# Altium integrated library Xilinx XC9500.IntLib: 208 symbols (part 15 of 16)
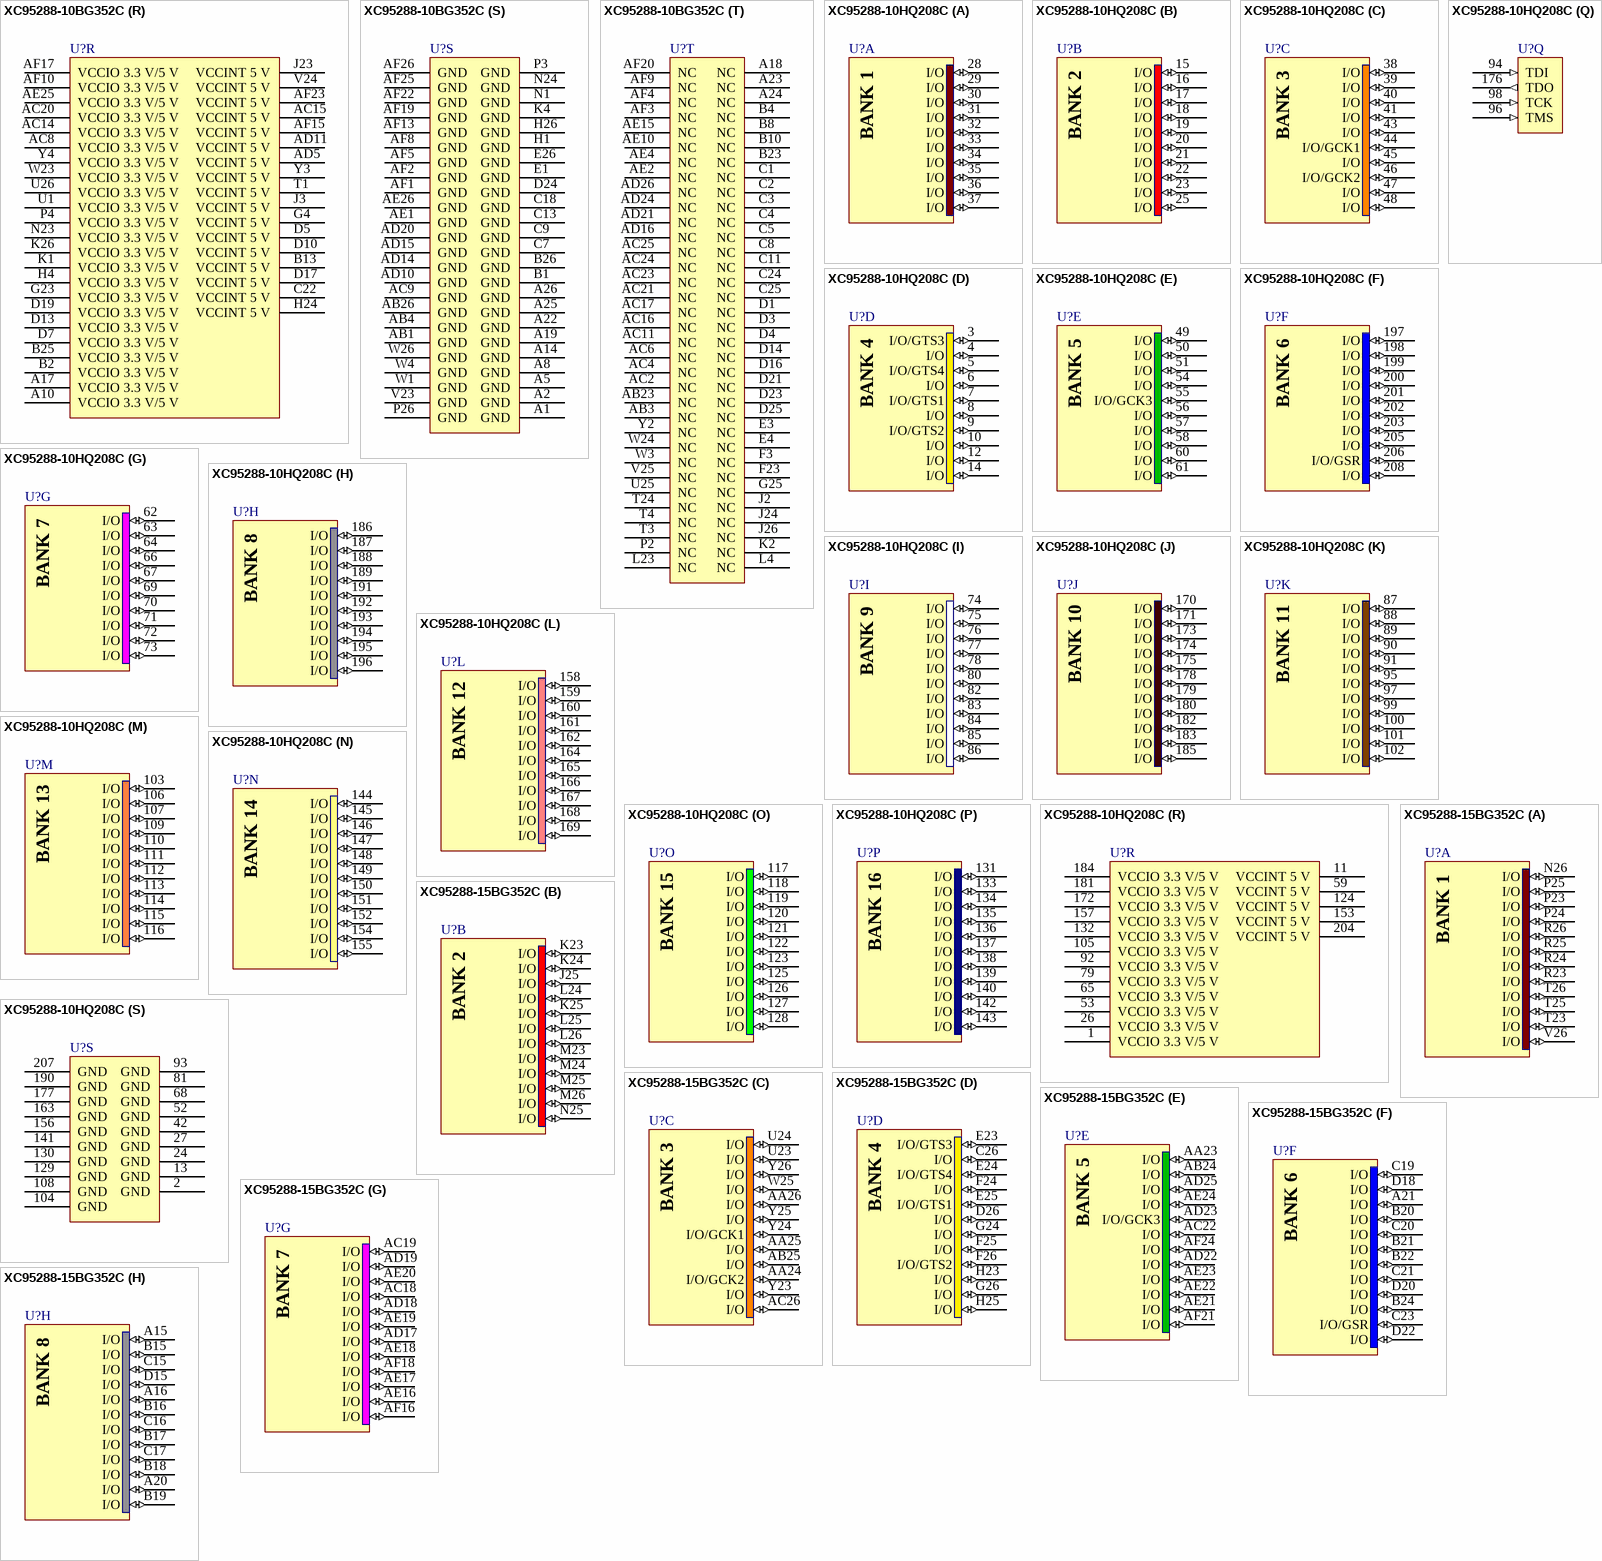
[diagram p87: symbols XC95288-10BG352C to XC95288-15BG352C]

## XC95288-10BG352C
designator U?
XC9500 5V, 288 Macrocell CPLD, 192 User I/Os, 352-Ball BGA, Commercial Grade; Published: 17-Sep-2003; LatestRevisionDate: 18-Nov-2009; LatestRevisionNote: Updated to family datasheet version 5.5 Jun-2007.; DatasheetVersion: ver4.3, Apr-2006; PackageVersion: ver1.1, Apr-2001; PackageReference: BG352; Publisher: Altium Limited; PackageDescription: 352-Ball Metal Ball Grid Array (BG352); Supplier 1: Digi-Key; Supplier Part Number 1: XC95288-10BG352C-ND; Code_JEDEC: MO-192-BAR-2; ComponentLink1Description: XC95288 Datasheet; ComponentLink1URL: http://www.xilinx.com/support/documentation/data_sheets/ds069.pdf; ComponentLink2Description: BG352 Package Drawing; ComponentLink2URL: http://www.xilinx.com/support/documentation/package_specs/bg352.pdf; ComponentLink3Description: XC9500 Documents; ComponentLink3URL: http://www.xilinx.com/support/documentation/xc9500.htm; ComponentLink4Description: Xilinx.com Home; ComponentLink4URL: http://www.xilinx.com
footprint BG352 (BGA, 352-Leads, Body 35x35mm, Pitch 1.27mm)
signal-integrity model XC95288_BGA352 (XC9500)
part A pins: N26 I/O (io), P23 I/O (io), P24 I/O (io), P25 I/O (io), R23 I/O (io), R24 I/O (io), R25 I/O (io), R26 I/O (io), T23 I/O (io), T25 I/O (io), T26 I/O (io), V26 I/O (io)
part B pins: J25 I/O (io), K23 I/O (io), K24 I/O (io), K25 I/O (io), L24 I/O (io), L25 I/O (io), L26 I/O (io), M23 I/O (io), M24 I/O (io), M25 I/O (io), M26 I/O (io), N25 I/O (io)
part C pins: AA24 I/O/GCK2 (io), AA25 I/O (io), AA26 I/O (io), AB25 I/O (io), AC26 I/O (io), U23 I/O (io), U24 I/O (io), W25 I/O (io), Y23 I/O (io), Y24 I/O/GCK1 (io), Y25 I/O (io), Y26 I/O (io)
part D pins: C26 I/O (io), D26 I/O (io), E23 I/O/GTS3 (io), E24 I/O/GTS4 (io), E25 I/O/GTS1 (io), F24 I/O (io), F25 I/O (io), F26 I/O/GTS2 (io), G24 I/O (io), G26 I/O (io), H23 I/O (io), H25 I/O (io)
part E pins: AA23 I/O (io), AB24 I/O (io), AC22 I/O (io), AD22 I/O (io), AD23 I/O/GCK3 (io), AD25 I/O (io), AE21 I/O (io), AE22 I/O (io), AE23 I/O (io), AE24 I/O (io), AF21 I/O (io), AF24 I/O (io)
part F pins: A21 I/O (io), B20 I/O (io), B21 I/O (io), B22 I/O (io), B24 I/O (io), C19 I/O (io), C20 I/O (io), C21 I/O (io), C23 I/O/GSR (io), D18 I/O (io), D20 I/O (io), D22 I/O (io)
part G pins: AC18 I/O (io), AC19 I/O (io), AD17 I/O (io), AD18 I/O (io), AD19 I/O (io), AE16 I/O (io), AE17 I/O (io), AE18 I/O (io), AE19 I/O (io), AE20 I/O (io), AF16 I/O (io), AF18 I/O (io)
part H pins: A15 I/O (io), A16 I/O (io), A20 I/O (io), B15 I/O (io), B16 I/O (io), B17 I/O (io), B18 I/O (io), B19 I/O (io), C15 I/O (io), C16 I/O (io), C17 I/O (io), D15 I/O (io)
part I pins: AC12 I/O (io), AC13 I/O (io), AD12 I/O (io), AD13 I/O (io), AE9 I/O (io), AE11 I/O (io), AE12 I/O (io), AE13 I/O (io), AE14 I/O (io), AF11 I/O (io), AF12 I/O (io), AF14 I/O (io)
part J pins: A9 I/O (io), A11 I/O (io), A12 I/O (io), A13 I/O (io), B9 I/O (io), B11 I/O (io), B12 I/O (io), B14 I/O (io), C10 I/O (io), C12 I/O (io), C14 I/O (io), D11 I/O (io)
part K pins: AC5 I/O (io), AC7 I/O (io), AC10 I/O (io), AD4 I/O (io), AD7 I/O (io), AD8 I/O (io), AD9 I/O (io), AE3 I/O (io), AE5 I/O (io), AE7 I/O (io), AE8 I/O (io), AF7 I/O (io)
part L pins: A3 I/O (io), A4 I/O (io), A6 I/O (io), A7 I/O (io), B3 I/O (io), B5 I/O (io), B6 I/O (io), B7 I/O (io), C6 I/O (io), D6 I/O (io), D8 I/O (io), D9 I/O (io)
part M pins: AA1 I/O (io), AA2 I/O (io), AA3 I/O (io), AA4 I/O (io), AB2 I/O (io), AC1 I/O (io), AC3 I/O (io), AD1 I/O (io), AD2 I/O (io), AD3 I/O (io), V4 I/O (io), Y1 I/O (io)
part N pins: D2 I/O (io), E2 I/O (io), F1 I/O (io), F2 I/O (io), F4 I/O (io), G1 I/O (io), G2 I/O (io), G3 I/O (io), H2 I/O (io), H3 I/O (io), J4 I/O (io), K3 I/O (io)
part O pins: R1 I/O (io), R2 I/O (io), R3 I/O (io), R4 I/O (io), T2 I/O (io), U2 I/O (io), U3 I/O (io), U4 I/O (io), V1 I/O (io), V2 I/O (io), V3 I/O (io), W2 I/O (io)
part P pins: J1 I/O (io), L1 I/O (io), L2 I/O (io), L3 I/O (io), M1 I/O (io), M2 I/O (io), M3 I/O (io), M4 I/O (io), N2 I/O (io), N3 I/O (io), N4 I/O (io), P1 I/O (io)
part Q pins: AD6 TCK (in), AE6 TMS (in), AF6 TDI (in), D12 TDO (out)
part R pins: A10 VCCIO 3.3 V/5 V (power), A17 VCCIO 3.3 V/5 V (power), AC8 VCCIO 3.3 V/5 V (power), AC14 VCCIO 3.3 V/5 V (power), AC15 VCCINT 5 V (power), AC20 VCCIO 3.3 V/5 V (power), AD5 VCCINT 5 V (power), AD11 VCCINT 5 V (power), AE25 VCCIO 3.3 V/5 V (power), AF10 VCCIO 3.3 V/5 V (power), AF15 VCCINT 5 V (power), AF17 VCCIO 3.3 V/5 V (power), AF23 VCCINT 5 V (power), B2 VCCIO 3.3 V/5 V (power), B13 VCCINT 5 V (power), B25 VCCIO 3.3 V/5 V (power), C22 VCCINT 5 V (power), D5 VCCINT 5 V (power), D7 VCCIO 3.3 V/5 V (power), D10 VCCINT 5 V (power), D13 VCCIO 3.3 V/5 V (power), D17 VCCINT 5 V (power), D19 VCCIO 3.3 V/5 V (power), G4 VCCINT 5 V (power), G23 VCCIO 3.3 V/5 V (power), H4 VCCIO 3.3 V/5 V (power), H24 VCCINT 5 V (power), J3 VCCINT 5 V (power), J23 VCCINT 5 V (power), K1 VCCIO 3.3 V/5 V (power), K26 VCCIO 3.3 V/5 V (power), N23 VCCIO 3.3 V/5 V (power), P4 VCCIO 3.3 V/5 V (power), T1 VCCINT 5 V (power), U1 VCCIO 3.3 V/5 V (power), U26 VCCIO 3.3 V/5 V (power), V24 VCCINT 5 V (power), W23 VCCIO 3.3 V/5 V (power), Y3 VCCINT 5 V (power), Y4 VCCIO 3.3 V/5 V (power)
part S pins: A1 GND (power), A2 GND (power), A5 GND (power), A8 GND (power), A14 GND (power), A19 GND (power), A22 GND (power), A25 GND (power), A26 GND (power), AB1 GND (power), AB4 GND (power), AB26 GND (power), AC9 GND (power), AD10 GND (power), AD14 GND (power), AD15 GND (power), AD20 GND (power), AE1 GND (power), AE26 GND (power), AF1 GND (power), AF2 GND (power), AF5 GND (power), AF8 GND (power), AF13 GND (power), AF19 GND (power), AF22 GND (power), AF25 GND (power), AF26 GND (power), B1 GND (power), B26 GND (power), C7 GND (power), C9 GND (power), C13 GND (power), C18 GND (power), D24 GND (power), E1 GND (power), E26 GND (power), H1 GND (power), H26 GND (power), K4 GND (power), N1 GND (power), N24 GND (power), P3 GND (power), P26 GND (power), V23 GND (power), W1 GND (power), W4 GND (power), W26 GND (power)
part T pins: A18 NC, A23 NC, A24 NC, AB3 NC, AB23 NC, AC2 NC, AC4 NC, AC6 NC, AC11 NC, AC16 NC, AC17 NC, AC21 NC, AC23 NC, AC24 NC, AC25 NC, AD16 NC, AD21 NC, AD24 NC, AD26 NC, AE2 NC, AE4 NC, AE10 NC, AE15 NC, AF3 NC, AF4 NC, AF9 NC, AF20 NC, B4 NC, B8 NC, B10 NC, B23 NC, C1 NC, C2 NC, C3 NC, C4 NC, C5 NC, C8 NC, C11 NC, C24 NC, C25 NC, D1 NC, D3 NC, D4 NC, D14 NC, D16 NC, D21 NC, D23 NC, D25 NC, E3 NC, E4 NC, F3 NC, F23 NC, G25 NC, J2 NC, J24 NC, J26 NC, K2 NC, L4 NC, L23 NC, P2 NC, T3 NC, T4 NC, T24 NC, U25 NC, V25 NC, W3 NC, W24 NC, Y2 NC
part A text: BANK 1
part B text: BANK 2
part C text: BANK 3
part D text: BANK 4
part E text: BANK 5
part F text: BANK 6
part G text: BANK 7
part H text: BANK 8
part I text: BANK 9
part J text: BANK 10
part K text: BANK 11
part L text: BANK 12
part M text: BANK 13
part N text: BANK 14
part O text: BANK 15
part P text: BANK 16

## XC95288-10HQ208C
designator U?
XC9500 5V, 288 Macrocell CPLD, 168 User I/Os, 208-Pin HQFP, Commercial Grade; Published: 17-Sep-2003; LatestRevisionDate: 18-Nov-2009; LatestRevisionNote: Updated to family datasheet version 5.5 Jun-2007.; DatasheetVersion: ver4.3, Apr-2006; PackageVersion: ver1.2, Jun-2004; PackageReference: HQ208; Publisher: Altium Limited; PackageDescription: 208-Pin Heat Sink Quad Flat Pack (HQ208); Supplier 1: Digi-Key; Supplier Part Number 1: XC95288-10HQ208C-ND; Code_JEDEC: MS-029-FA-1; ComponentLink1Description: XC95288 Datasheet; ComponentLink1URL: http://www.xilinx.com/support/documentation/data_sheets/ds069.pdf; ComponentLink2Description: Discontinuation Notice; ComponentLink2URL: http://www.xilinx.com/support/documentation/customer_notices/xcn09001.pdf; ComponentLink3Description: HQ208 Package Drawing; ComponentLink3URL: http://www.xilinx.com/support/documentation/package_specs/hq208.pdf; ComponentLink4Description: XC9500 Documents; ComponentLink4URL: http://www.xilinx.com/support/documentation/xc9500.htm; ComponentLink5Description: Xilinx.com Home; ComponentLink5URL: http://www.xilinx.com
footprint HQ208_N (Shrink QFP, 208-Leads, Body 28x28mm, Pitch 0.5mm, IPC Medium Density)
footprint HQ208_L (Shrink QFP, 208-Leads, Body 28x28mm, Pitch 0.5mm, IPC High Density)
footprint HQ208_M (Shrink QFP, 208-Leads, Body 28x28mm, Pitch 0.5mm, IPC Low Density)
signal-integrity model XC95288_HQ208 (XC9500)
part A pins: 28 I/O (io), 29 I/O (io), 30 I/O (io), 31 I/O (io), 32 I/O (io), 33 I/O (io), 34 I/O (io), 35 I/O (io), 36 I/O (io), 37 I/O (io)
part B pins: 15 I/O (io), 16 I/O (io), 17 I/O (io), 18 I/O (io), 19 I/O (io), 20 I/O (io), 21 I/O (io), 22 I/O (io), 23 I/O (io), 25 I/O (io)
part C pins: 38 I/O (io), 39 I/O (io), 40 I/O (io), 41 I/O (io), 43 I/O (io), 44 I/O/GCK1 (io), 45 I/O (io), 46 I/O/GCK2 (io), 47 I/O (io), 48 I/O (io)
part D pins: 3 I/O/GTS3 (io), 4 I/O (io), 5 I/O/GTS4 (io), 6 I/O (io), 7 I/O/GTS1 (io), 8 I/O (io), 9 I/O/GTS2 (io), 10 I/O (io), 12 I/O (io), 14 I/O (io)
part E pins: 49 I/O (io), 50 I/O (io), 51 I/O (io), 54 I/O (io), 55 I/O/GCK3 (io), 56 I/O (io), 57 I/O (io), 58 I/O (io), 60 I/O (io), 61 I/O (io)
part F pins: 197 I/O (io), 198 I/O (io), 199 I/O (io), 200 I/O (io), 201 I/O (io), 202 I/O (io), 203 I/O (io), 205 I/O (io), 206 I/O/GSR (io), 208 I/O (io)
part G pins: 62 I/O (io), 63 I/O (io), 64 I/O (io), 66 I/O (io), 67 I/O (io), 69 I/O (io), 70 I/O (io), 71 I/O (io), 72 I/O (io), 73 I/O (io)
part H pins: 186 I/O (io), 187 I/O (io), 188 I/O (io), 189 I/O (io), 191 I/O (io), 192 I/O (io), 193 I/O (io), 194 I/O (io), 195 I/O (io), 196 I/O (io)
part I pins: 74 I/O (io), 75 I/O (io), 76 I/O (io), 77 I/O (io), 78 I/O (io), 80 I/O (io), 82 I/O (io), 83 I/O (io), 84 I/O (io), 85 I/O (io), 86 I/O (io)
part J pins: 170 I/O (io), 171 I/O (io), 173 I/O (io), 174 I/O (io), 175 I/O (io), 178 I/O (io), 179 I/O (io), 180 I/O (io), 182 I/O (io), 183 I/O (io), 185 I/O (io)
part K pins: 87 I/O (io), 88 I/O (io), 89 I/O (io), 90 I/O (io), 91 I/O (io), 95 I/O (io), 97 I/O (io), 99 I/O (io), 100 I/O (io), 101 I/O (io), 102 I/O (io)
part L pins: 158 I/O (io), 159 I/O (io), 160 I/O (io), 161 I/O (io), 162 I/O (io), 164 I/O (io), 165 I/O (io), 166 I/O (io), 167 I/O (io), 168 I/O (io), 169 I/O (io)
part M pins: 103 I/O (io), 106 I/O (io), 107 I/O (io), 109 I/O (io), 110 I/O (io), 111 I/O (io), 112 I/O (io), 113 I/O (io), 114 I/O (io), 115 I/O (io), 116 I/O (io)
part N pins: 144 I/O (io), 145 I/O (io), 146 I/O (io), 147 I/O (io), 148 I/O (io), 149 I/O (io), 150 I/O (io), 151 I/O (io), 152 I/O (io), 154 I/O (io), 155 I/O (io)
part O pins: 117 I/O (io), 118 I/O (io), 119 I/O (io), 120 I/O (io), 121 I/O (io), 122 I/O (io), 123 I/O (io), 125 I/O (io), 126 I/O (io), 127 I/O (io), 128 I/O (io)
part P pins: 131 I/O (io), 133 I/O (io), 134 I/O (io), 135 I/O (io), 136 I/O (io), 137 I/O (io), 138 I/O (io), 139 I/O (io), 140 I/O (io), 142 I/O (io), 143 I/O (io)
part Q pins: 94 TDI (in), 96 TMS (in), 98 TCK (in), 176 TDO (out)
part R pins: 1 VCCIO 3.3 V/5 V (power), 11 VCCINT 5 V (power), 26 VCCIO 3.3 V/5 V (power), 53 VCCIO 3.3 V/5 V (power), 59 VCCINT 5 V (power), 65 VCCIO 3.3 V/5 V (power), 79 VCCIO 3.3 V/5 V (power), 92 VCCIO 3.3 V/5 V (power), 105 VCCIO 3.3 V/5 V (power), 124 VCCINT 5 V (power), 132 VCCIO 3.3 V/5 V (power), 153 VCCINT 5 V (power), 157 VCCIO 3.3 V/5 V (power), 172 VCCIO 3.3 V/5 V (power), 181 VCCIO 3.3 V/5 V (power), 184 VCCIO 3.3 V/5 V (power), 204 VCCINT 5 V (power)
part S pins: 2 GND (power), 13 GND (power), 24 GND (power), 27 GND (power), 42 GND (power), 52 GND (power), 68 GND (power), 81 GND (power), 93 GND (power), 104 GND (power), 108 GND (power), 129 GND (power), 130 GND (power), 141 GND (power), 156 GND (power), 163 GND (power), 177 GND (power), 190 GND (power), 207 GND (power)
part A text: BANK 1
part B text: BANK 2
part C text: BANK 3
part D text: BANK 4
part E text: BANK 5
part F text: BANK 6
part G text: BANK 7
part H text: BANK 8
part I text: BANK 9
part J text: BANK 10
part K text: BANK 11
part L text: BANK 12
part M text: BANK 13
part N text: BANK 14
part O text: BANK 15
part P text: BANK 16

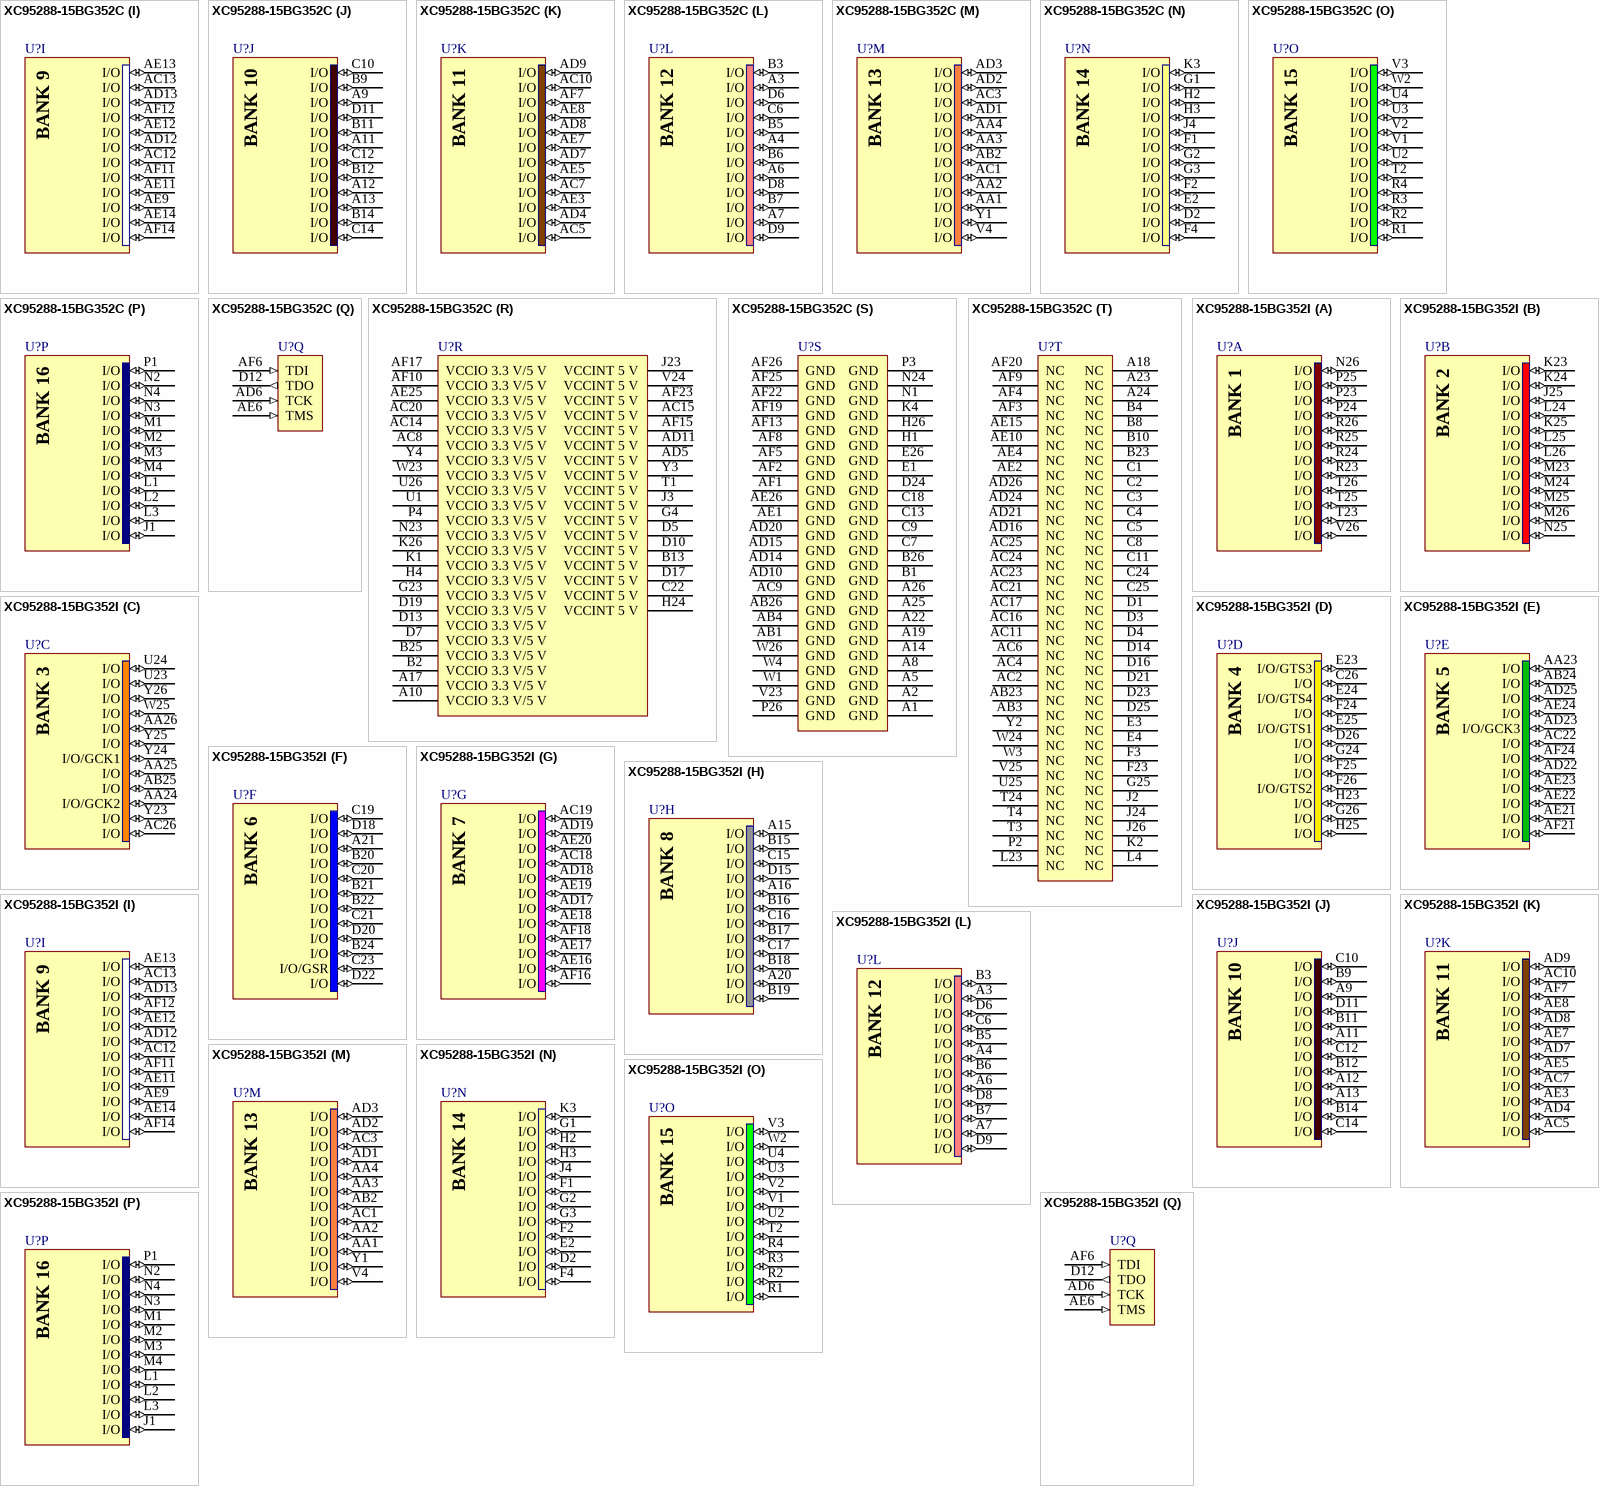
[diagram p69: symbols XC95288-15BG352C to XC95288-15BG352I]

## XC95288-15BG352C
designator U?
XC9500 5V, 288 Macrocell CPLD, 192 User I/Os, 352-Ball BGA, Commercial Grade; Published: 17-Sep-2003; LatestRevisionDate: 18-Nov-2009; LatestRevisionNote: Updated to family datasheet version 5.5 Jun-2007.; DatasheetVersion: ver4.3, Apr-2006; PackageVersion: ver1.1, Apr-2001; PackageReference: BG352; Publisher: Altium Limited; PackageDescription: 352-Ball Metal Ball Grid Array (BG352); Supplier 1: Digi-Key; Supplier Part Number 1: XC95288-15BG352C-ND; Code_JEDEC: MO-192-BAR-2; ComponentLink1Description: XC95288 Datasheet; ComponentLink1URL: http://www.xilinx.com/support/documentation/data_sheets/ds069.pdf; ComponentLink2Description: BG352 Package Drawing; ComponentLink2URL: http://www.xilinx.com/support/documentation/package_specs/bg352.pdf; ComponentLink3Description: XC9500 Documents; ComponentLink3URL: http://www.xilinx.com/support/documentation/xc9500.htm; ComponentLink4Description: Xilinx.com Home; ComponentLink4URL: http://www.xilinx.com
footprint BG352 (BGA, 352-Leads, Body 35x35mm, Pitch 1.27mm)
signal-integrity model XC95288_BGA352 (XC9500)
part A pins: N26 I/O (io), P23 I/O (io), P24 I/O (io), P25 I/O (io), R23 I/O (io), R24 I/O (io), R25 I/O (io), R26 I/O (io), T23 I/O (io), T25 I/O (io), T26 I/O (io), V26 I/O (io)
part B pins: J25 I/O (io), K23 I/O (io), K24 I/O (io), K25 I/O (io), L24 I/O (io), L25 I/O (io), L26 I/O (io), M23 I/O (io), M24 I/O (io), M25 I/O (io), M26 I/O (io), N25 I/O (io)
part C pins: AA24 I/O/GCK2 (io), AA25 I/O (io), AA26 I/O (io), AB25 I/O (io), AC26 I/O (io), U23 I/O (io), U24 I/O (io), W25 I/O (io), Y23 I/O (io), Y24 I/O/GCK1 (io), Y25 I/O (io), Y26 I/O (io)
part D pins: C26 I/O (io), D26 I/O (io), E23 I/O/GTS3 (io), E24 I/O/GTS4 (io), E25 I/O/GTS1 (io), F24 I/O (io), F25 I/O (io), F26 I/O/GTS2 (io), G24 I/O (io), G26 I/O (io), H23 I/O (io), H25 I/O (io)
part E pins: AA23 I/O (io), AB24 I/O (io), AC22 I/O (io), AD22 I/O (io), AD23 I/O/GCK3 (io), AD25 I/O (io), AE21 I/O (io), AE22 I/O (io), AE23 I/O (io), AE24 I/O (io), AF21 I/O (io), AF24 I/O (io)
part F pins: A21 I/O (io), B20 I/O (io), B21 I/O (io), B22 I/O (io), B24 I/O (io), C19 I/O (io), C20 I/O (io), C21 I/O (io), C23 I/O/GSR (io), D18 I/O (io), D20 I/O (io), D22 I/O (io)
part G pins: AC18 I/O (io), AC19 I/O (io), AD17 I/O (io), AD18 I/O (io), AD19 I/O (io), AE16 I/O (io), AE17 I/O (io), AE18 I/O (io), AE19 I/O (io), AE20 I/O (io), AF16 I/O (io), AF18 I/O (io)
part H pins: A15 I/O (io), A16 I/O (io), A20 I/O (io), B15 I/O (io), B16 I/O (io), B17 I/O (io), B18 I/O (io), B19 I/O (io), C15 I/O (io), C16 I/O (io), C17 I/O (io), D15 I/O (io)
part I pins: AC12 I/O (io), AC13 I/O (io), AD12 I/O (io), AD13 I/O (io), AE9 I/O (io), AE11 I/O (io), AE12 I/O (io), AE13 I/O (io), AE14 I/O (io), AF11 I/O (io), AF12 I/O (io), AF14 I/O (io)
part J pins: A9 I/O (io), A11 I/O (io), A12 I/O (io), A13 I/O (io), B9 I/O (io), B11 I/O (io), B12 I/O (io), B14 I/O (io), C10 I/O (io), C12 I/O (io), C14 I/O (io), D11 I/O (io)
part K pins: AC5 I/O (io), AC7 I/O (io), AC10 I/O (io), AD4 I/O (io), AD7 I/O (io), AD8 I/O (io), AD9 I/O (io), AE3 I/O (io), AE5 I/O (io), AE7 I/O (io), AE8 I/O (io), AF7 I/O (io)
part L pins: A3 I/O (io), A4 I/O (io), A6 I/O (io), A7 I/O (io), B3 I/O (io), B5 I/O (io), B6 I/O (io), B7 I/O (io), C6 I/O (io), D6 I/O (io), D8 I/O (io), D9 I/O (io)
part M pins: AA1 I/O (io), AA2 I/O (io), AA3 I/O (io), AA4 I/O (io), AB2 I/O (io), AC1 I/O (io), AC3 I/O (io), AD1 I/O (io), AD2 I/O (io), AD3 I/O (io), V4 I/O (io), Y1 I/O (io)
part N pins: D2 I/O (io), E2 I/O (io), F1 I/O (io), F2 I/O (io), F4 I/O (io), G1 I/O (io), G2 I/O (io), G3 I/O (io), H2 I/O (io), H3 I/O (io), J4 I/O (io), K3 I/O (io)
part O pins: R1 I/O (io), R2 I/O (io), R3 I/O (io), R4 I/O (io), T2 I/O (io), U2 I/O (io), U3 I/O (io), U4 I/O (io), V1 I/O (io), V2 I/O (io), V3 I/O (io), W2 I/O (io)
part P pins: J1 I/O (io), L1 I/O (io), L2 I/O (io), L3 I/O (io), M1 I/O (io), M2 I/O (io), M3 I/O (io), M4 I/O (io), N2 I/O (io), N3 I/O (io), N4 I/O (io), P1 I/O (io)
part Q pins: AD6 TCK (in), AE6 TMS (in), AF6 TDI (in), D12 TDO (out)
part R pins: A10 VCCIO 3.3 V/5 V (power), A17 VCCIO 3.3 V/5 V (power), AC8 VCCIO 3.3 V/5 V (power), AC14 VCCIO 3.3 V/5 V (power), AC15 VCCINT 5 V (power), AC20 VCCIO 3.3 V/5 V (power), AD5 VCCINT 5 V (power), AD11 VCCINT 5 V (power), AE25 VCCIO 3.3 V/5 V (power), AF10 VCCIO 3.3 V/5 V (power), AF15 VCCINT 5 V (power), AF17 VCCIO 3.3 V/5 V (power), AF23 VCCINT 5 V (power), B2 VCCIO 3.3 V/5 V (power), B13 VCCINT 5 V (power), B25 VCCIO 3.3 V/5 V (power), C22 VCCINT 5 V (power), D5 VCCINT 5 V (power), D7 VCCIO 3.3 V/5 V (power), D10 VCCINT 5 V (power), D13 VCCIO 3.3 V/5 V (power), D17 VCCINT 5 V (power), D19 VCCIO 3.3 V/5 V (power), G4 VCCINT 5 V (power), G23 VCCIO 3.3 V/5 V (power), H4 VCCIO 3.3 V/5 V (power), H24 VCCINT 5 V (power), J3 VCCINT 5 V (power), J23 VCCINT 5 V (power), K1 VCCIO 3.3 V/5 V (power), K26 VCCIO 3.3 V/5 V (power), N23 VCCIO 3.3 V/5 V (power), P4 VCCIO 3.3 V/5 V (power), T1 VCCINT 5 V (power), U1 VCCIO 3.3 V/5 V (power), U26 VCCIO 3.3 V/5 V (power), V24 VCCINT 5 V (power), W23 VCCIO 3.3 V/5 V (power), Y3 VCCINT 5 V (power), Y4 VCCIO 3.3 V/5 V (power)
part S pins: A1 GND (power), A2 GND (power), A5 GND (power), A8 GND (power), A14 GND (power), A19 GND (power), A22 GND (power), A25 GND (power), A26 GND (power), AB1 GND (power), AB4 GND (power), AB26 GND (power), AC9 GND (power), AD10 GND (power), AD14 GND (power), AD15 GND (power), AD20 GND (power), AE1 GND (power), AE26 GND (power), AF1 GND (power), AF2 GND (power), AF5 GND (power), AF8 GND (power), AF13 GND (power), AF19 GND (power), AF22 GND (power), AF25 GND (power), AF26 GND (power), B1 GND (power), B26 GND (power), C7 GND (power), C9 GND (power), C13 GND (power), C18 GND (power), D24 GND (power), E1 GND (power), E26 GND (power), H1 GND (power), H26 GND (power), K4 GND (power), N1 GND (power), N24 GND (power), P3 GND (power), P26 GND (power), V23 GND (power), W1 GND (power), W4 GND (power), W26 GND (power)
part T pins: A18 NC, A23 NC, A24 NC, AB3 NC, AB23 NC, AC2 NC, AC4 NC, AC6 NC, AC11 NC, AC16 NC, AC17 NC, AC21 NC, AC23 NC, AC24 NC, AC25 NC, AD16 NC, AD21 NC, AD24 NC, AD26 NC, AE2 NC, AE4 NC, AE10 NC, AE15 NC, AF3 NC, AF4 NC, AF9 NC, AF20 NC, B4 NC, B8 NC, B10 NC, B23 NC, C1 NC, C2 NC, C3 NC, C4 NC, C5 NC, C8 NC, C11 NC, C24 NC, C25 NC, D1 NC, D3 NC, D4 NC, D14 NC, D16 NC, D21 NC, D23 NC, D25 NC, E3 NC, E4 NC, F3 NC, F23 NC, G25 NC, J2 NC, J24 NC, J26 NC, K2 NC, L4 NC, L23 NC, P2 NC, T3 NC, T4 NC, T24 NC, U25 NC, V25 NC, W3 NC, W24 NC, Y2 NC
part A text: BANK 1
part B text: BANK 2
part C text: BANK 3
part D text: BANK 4
part E text: BANK 5
part F text: BANK 6
part G text: BANK 7
part H text: BANK 8
part I text: BANK 9
part J text: BANK 10
part K text: BANK 11
part L text: BANK 12
part M text: BANK 13
part N text: BANK 14
part O text: BANK 15
part P text: BANK 16

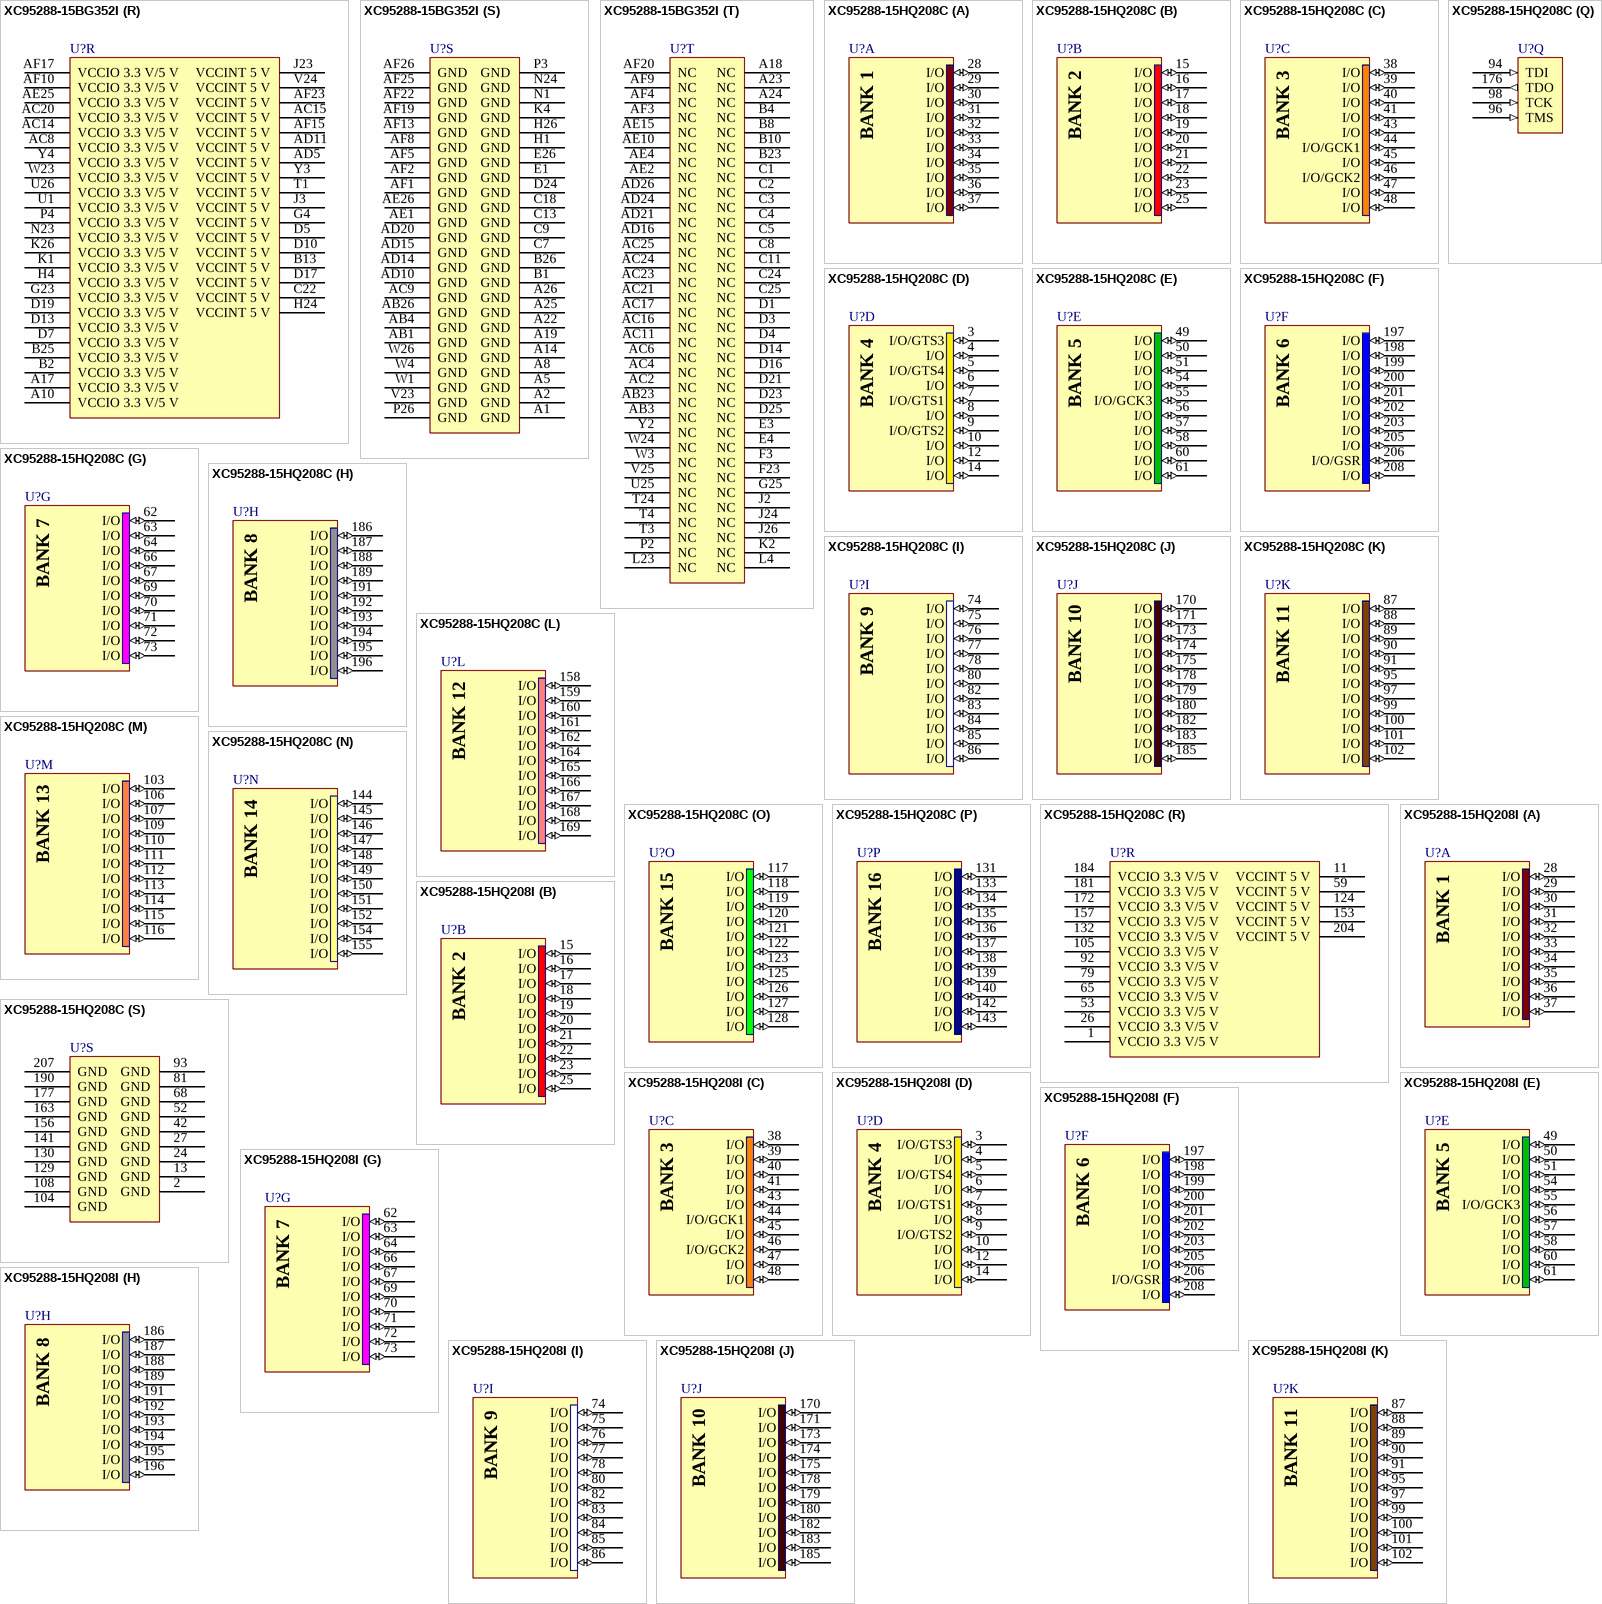
[diagram p70: symbols XC95288-15BG352I to XC95288-15HQ208I]

## XC95288-15BG352I
designator U?
XC9500 5V, 288 Macrocell CPLD, 192 User I/Os, 352-Ball BGA, Industrial Grade; Published: 17-Sep-2003; LatestRevisionDate: 18-Nov-2009; LatestRevisionNote: Updated to family datasheet version 5.5 Jun-2007.; DatasheetVersion: ver4.3, Apr-2006; PackageVersion: ver1.1, Apr-2001; PackageReference: BG352; Publisher: Altium Limited; PackageDescription: 352-Ball Metal Ball Grid Array (BG352); Supplier 1: Digi-Key; Supplier Part Number 1: XC95288-15BG352I-ND; Code_JEDEC: MO-192-BAR-2; ComponentLink1Description: XC95288 Datasheet; ComponentLink1URL: http://www.xilinx.com/support/documentation/data_sheets/ds069.pdf; ComponentLink2Description: BG352 Package Drawing; ComponentLink2URL: http://www.xilinx.com/support/documentation/package_specs/bg352.pdf; ComponentLink3Description: XC9500 Documents; ComponentLink3URL: http://www.xilinx.com/support/documentation/xc9500.htm; ComponentLink4Description: Xilinx.com Home; ComponentLink4URL: http://www.xilinx.com
footprint BG352 (BGA, 352-Leads, Body 35x35mm, Pitch 1.27mm)
signal-integrity model XC95288_BGA352 (XC9500)
part A pins: N26 I/O (io), P23 I/O (io), P24 I/O (io), P25 I/O (io), R23 I/O (io), R24 I/O (io), R25 I/O (io), R26 I/O (io), T23 I/O (io), T25 I/O (io), T26 I/O (io), V26 I/O (io)
part B pins: J25 I/O (io), K23 I/O (io), K24 I/O (io), K25 I/O (io), L24 I/O (io), L25 I/O (io), L26 I/O (io), M23 I/O (io), M24 I/O (io), M25 I/O (io), M26 I/O (io), N25 I/O (io)
part C pins: AA24 I/O/GCK2 (io), AA25 I/O (io), AA26 I/O (io), AB25 I/O (io), AC26 I/O (io), U23 I/O (io), U24 I/O (io), W25 I/O (io), Y23 I/O (io), Y24 I/O/GCK1 (io), Y25 I/O (io), Y26 I/O (io)
part D pins: C26 I/O (io), D26 I/O (io), E23 I/O/GTS3 (io), E24 I/O/GTS4 (io), E25 I/O/GTS1 (io), F24 I/O (io), F25 I/O (io), F26 I/O/GTS2 (io), G24 I/O (io), G26 I/O (io), H23 I/O (io), H25 I/O (io)
part E pins: AA23 I/O (io), AB24 I/O (io), AC22 I/O (io), AD22 I/O (io), AD23 I/O/GCK3 (io), AD25 I/O (io), AE21 I/O (io), AE22 I/O (io), AE23 I/O (io), AE24 I/O (io), AF21 I/O (io), AF24 I/O (io)
part F pins: A21 I/O (io), B20 I/O (io), B21 I/O (io), B22 I/O (io), B24 I/O (io), C19 I/O (io), C20 I/O (io), C21 I/O (io), C23 I/O/GSR (io), D18 I/O (io), D20 I/O (io), D22 I/O (io)
part G pins: AC18 I/O (io), AC19 I/O (io), AD17 I/O (io), AD18 I/O (io), AD19 I/O (io), AE16 I/O (io), AE17 I/O (io), AE18 I/O (io), AE19 I/O (io), AE20 I/O (io), AF16 I/O (io), AF18 I/O (io)
part H pins: A15 I/O (io), A16 I/O (io), A20 I/O (io), B15 I/O (io), B16 I/O (io), B17 I/O (io), B18 I/O (io), B19 I/O (io), C15 I/O (io), C16 I/O (io), C17 I/O (io), D15 I/O (io)
part I pins: AC12 I/O (io), AC13 I/O (io), AD12 I/O (io), AD13 I/O (io), AE9 I/O (io), AE11 I/O (io), AE12 I/O (io), AE13 I/O (io), AE14 I/O (io), AF11 I/O (io), AF12 I/O (io), AF14 I/O (io)
part J pins: A9 I/O (io), A11 I/O (io), A12 I/O (io), A13 I/O (io), B9 I/O (io), B11 I/O (io), B12 I/O (io), B14 I/O (io), C10 I/O (io), C12 I/O (io), C14 I/O (io), D11 I/O (io)
part K pins: AC5 I/O (io), AC7 I/O (io), AC10 I/O (io), AD4 I/O (io), AD7 I/O (io), AD8 I/O (io), AD9 I/O (io), AE3 I/O (io), AE5 I/O (io), AE7 I/O (io), AE8 I/O (io), AF7 I/O (io)
part L pins: A3 I/O (io), A4 I/O (io), A6 I/O (io), A7 I/O (io), B3 I/O (io), B5 I/O (io), B6 I/O (io), B7 I/O (io), C6 I/O (io), D6 I/O (io), D8 I/O (io), D9 I/O (io)
part M pins: AA1 I/O (io), AA2 I/O (io), AA3 I/O (io), AA4 I/O (io), AB2 I/O (io), AC1 I/O (io), AC3 I/O (io), AD1 I/O (io), AD2 I/O (io), AD3 I/O (io), V4 I/O (io), Y1 I/O (io)
part N pins: D2 I/O (io), E2 I/O (io), F1 I/O (io), F2 I/O (io), F4 I/O (io), G1 I/O (io), G2 I/O (io), G3 I/O (io), H2 I/O (io), H3 I/O (io), J4 I/O (io), K3 I/O (io)
part O pins: R1 I/O (io), R2 I/O (io), R3 I/O (io), R4 I/O (io), T2 I/O (io), U2 I/O (io), U3 I/O (io), U4 I/O (io), V1 I/O (io), V2 I/O (io), V3 I/O (io), W2 I/O (io)
part P pins: J1 I/O (io), L1 I/O (io), L2 I/O (io), L3 I/O (io), M1 I/O (io), M2 I/O (io), M3 I/O (io), M4 I/O (io), N2 I/O (io), N3 I/O (io), N4 I/O (io), P1 I/O (io)
part Q pins: AD6 TCK (in), AE6 TMS (in), AF6 TDI (in), D12 TDO (out)
part R pins: A10 VCCIO 3.3 V/5 V (power), A17 VCCIO 3.3 V/5 V (power), AC8 VCCIO 3.3 V/5 V (power), AC14 VCCIO 3.3 V/5 V (power), AC15 VCCINT 5 V (power), AC20 VCCIO 3.3 V/5 V (power), AD5 VCCINT 5 V (power), AD11 VCCINT 5 V (power), AE25 VCCIO 3.3 V/5 V (power), AF10 VCCIO 3.3 V/5 V (power), AF15 VCCINT 5 V (power), AF17 VCCIO 3.3 V/5 V (power), AF23 VCCINT 5 V (power), B2 VCCIO 3.3 V/5 V (power), B13 VCCINT 5 V (power), B25 VCCIO 3.3 V/5 V (power), C22 VCCINT 5 V (power), D5 VCCINT 5 V (power), D7 VCCIO 3.3 V/5 V (power), D10 VCCINT 5 V (power), D13 VCCIO 3.3 V/5 V (power), D17 VCCINT 5 V (power), D19 VCCIO 3.3 V/5 V (power), G4 VCCINT 5 V (power), G23 VCCIO 3.3 V/5 V (power), H4 VCCIO 3.3 V/5 V (power), H24 VCCINT 5 V (power), J3 VCCINT 5 V (power), J23 VCCINT 5 V (power), K1 VCCIO 3.3 V/5 V (power), K26 VCCIO 3.3 V/5 V (power), N23 VCCIO 3.3 V/5 V (power), P4 VCCIO 3.3 V/5 V (power), T1 VCCINT 5 V (power), U1 VCCIO 3.3 V/5 V (power), U26 VCCIO 3.3 V/5 V (power), V24 VCCINT 5 V (power), W23 VCCIO 3.3 V/5 V (power), Y3 VCCINT 5 V (power), Y4 VCCIO 3.3 V/5 V (power)
part S pins: A1 GND (power), A2 GND (power), A5 GND (power), A8 GND (power), A14 GND (power), A19 GND (power), A22 GND (power), A25 GND (power), A26 GND (power), AB1 GND (power), AB4 GND (power), AB26 GND (power), AC9 GND (power), AD10 GND (power), AD14 GND (power), AD15 GND (power), AD20 GND (power), AE1 GND (power), AE26 GND (power), AF1 GND (power), AF2 GND (power), AF5 GND (power), AF8 GND (power), AF13 GND (power), AF19 GND (power), AF22 GND (power), AF25 GND (power), AF26 GND (power), B1 GND (power), B26 GND (power), C7 GND (power), C9 GND (power), C13 GND (power), C18 GND (power), D24 GND (power), E1 GND (power), E26 GND (power), H1 GND (power), H26 GND (power), K4 GND (power), N1 GND (power), N24 GND (power), P3 GND (power), P26 GND (power), V23 GND (power), W1 GND (power), W4 GND (power), W26 GND (power)
part T pins: A18 NC, A23 NC, A24 NC, AB3 NC, AB23 NC, AC2 NC, AC4 NC, AC6 NC, AC11 NC, AC16 NC, AC17 NC, AC21 NC, AC23 NC, AC24 NC, AC25 NC, AD16 NC, AD21 NC, AD24 NC, AD26 NC, AE2 NC, AE4 NC, AE10 NC, AE15 NC, AF3 NC, AF4 NC, AF9 NC, AF20 NC, B4 NC, B8 NC, B10 NC, B23 NC, C1 NC, C2 NC, C3 NC, C4 NC, C5 NC, C8 NC, C11 NC, C24 NC, C25 NC, D1 NC, D3 NC, D4 NC, D14 NC, D16 NC, D21 NC, D23 NC, D25 NC, E3 NC, E4 NC, F3 NC, F23 NC, G25 NC, J2 NC, J24 NC, J26 NC, K2 NC, L4 NC, L23 NC, P2 NC, T3 NC, T4 NC, T24 NC, U25 NC, V25 NC, W3 NC, W24 NC, Y2 NC
part A text: BANK 1
part B text: BANK 2
part C text: BANK 3
part D text: BANK 4
part E text: BANK 5
part F text: BANK 6
part G text: BANK 7
part H text: BANK 8
part I text: BANK 9
part J text: BANK 10
part K text: BANK 11
part L text: BANK 12
part M text: BANK 13
part N text: BANK 14
part O text: BANK 15
part P text: BANK 16

## XC95288-15HQ208C
designator U?
XC9500 5V, 288 Macrocell CPLD, 168 User I/Os, 208-Pin HQFP, Commercial Grade; Published: 17-Sep-2003; LatestRevisionDate: 18-Nov-2009; LatestRevisionNote: Updated to family datasheet version 5.5 Jun-2007.; DatasheetVersion: ver4.3, Apr-2006; PackageVersion: ver1.2, Jun-2004; PackageReference: HQ208; Publisher: Altium Limited; PackageDescription: 208-Pin Heat Sink Quad Flat Pack (HQ208); Supplier 1: Digi-Key; Supplier Part Number 1: XC95288-15HQ208C-ND; Code_JEDEC: MS-029-FA-1; ComponentLink1Description: XC95288 Datasheet; ComponentLink1URL: http://www.xilinx.com/support/documentation/data_sheets/ds069.pdf; ComponentLink2Description: Discontinuation Notice; ComponentLink2URL: http://www.xilinx.com/support/documentation/customer_notices/xcn09001.pdf; ComponentLink3Description: HQ208 Package Drawing; ComponentLink3URL: http://www.xilinx.com/support/documentation/package_specs/hq208.pdf; ComponentLink4Description: XC9500 Documents; ComponentLink4URL: http://www.xilinx.com/support/documentation/xc9500.htm; ComponentLink5Description: Xilinx.com Home; ComponentLink5URL: http://www.xilinx.com
footprint HQ208_N (Shrink QFP, 208-Leads, Body 28x28mm, Pitch 0.5mm, IPC Medium Density)
footprint HQ208_L (Shrink QFP, 208-Leads, Body 28x28mm, Pitch 0.5mm, IPC High Density)
footprint HQ208_M (Shrink QFP, 208-Leads, Body 28x28mm, Pitch 0.5mm, IPC Low Density)
signal-integrity model XC95288_HQ208 (XC9500)
part A pins: 28 I/O (io), 29 I/O (io), 30 I/O (io), 31 I/O (io), 32 I/O (io), 33 I/O (io), 34 I/O (io), 35 I/O (io), 36 I/O (io), 37 I/O (io)
part B pins: 15 I/O (io), 16 I/O (io), 17 I/O (io), 18 I/O (io), 19 I/O (io), 20 I/O (io), 21 I/O (io), 22 I/O (io), 23 I/O (io), 25 I/O (io)
part C pins: 38 I/O (io), 39 I/O (io), 40 I/O (io), 41 I/O (io), 43 I/O (io), 44 I/O/GCK1 (io), 45 I/O (io), 46 I/O/GCK2 (io), 47 I/O (io), 48 I/O (io)
part D pins: 3 I/O/GTS3 (io), 4 I/O (io), 5 I/O/GTS4 (io), 6 I/O (io), 7 I/O/GTS1 (io), 8 I/O (io), 9 I/O/GTS2 (io), 10 I/O (io), 12 I/O (io), 14 I/O (io)
part E pins: 49 I/O (io), 50 I/O (io), 51 I/O (io), 54 I/O (io), 55 I/O/GCK3 (io), 56 I/O (io), 57 I/O (io), 58 I/O (io), 60 I/O (io), 61 I/O (io)
part F pins: 197 I/O (io), 198 I/O (io), 199 I/O (io), 200 I/O (io), 201 I/O (io), 202 I/O (io), 203 I/O (io), 205 I/O (io), 206 I/O/GSR (io), 208 I/O (io)
part G pins: 62 I/O (io), 63 I/O (io), 64 I/O (io), 66 I/O (io), 67 I/O (io), 69 I/O (io), 70 I/O (io), 71 I/O (io), 72 I/O (io), 73 I/O (io)
part H pins: 186 I/O (io), 187 I/O (io), 188 I/O (io), 189 I/O (io), 191 I/O (io), 192 I/O (io), 193 I/O (io), 194 I/O (io), 195 I/O (io), 196 I/O (io)
part I pins: 74 I/O (io), 75 I/O (io), 76 I/O (io), 77 I/O (io), 78 I/O (io), 80 I/O (io), 82 I/O (io), 83 I/O (io), 84 I/O (io), 85 I/O (io), 86 I/O (io)
part J pins: 170 I/O (io), 171 I/O (io), 173 I/O (io), 174 I/O (io), 175 I/O (io), 178 I/O (io), 179 I/O (io), 180 I/O (io), 182 I/O (io), 183 I/O (io), 185 I/O (io)
part K pins: 87 I/O (io), 88 I/O (io), 89 I/O (io), 90 I/O (io), 91 I/O (io), 95 I/O (io), 97 I/O (io), 99 I/O (io), 100 I/O (io), 101 I/O (io), 102 I/O (io)
part L pins: 158 I/O (io), 159 I/O (io), 160 I/O (io), 161 I/O (io), 162 I/O (io), 164 I/O (io), 165 I/O (io), 166 I/O (io), 167 I/O (io), 168 I/O (io), 169 I/O (io)
part M pins: 103 I/O (io), 106 I/O (io), 107 I/O (io), 109 I/O (io), 110 I/O (io), 111 I/O (io), 112 I/O (io), 113 I/O (io), 114 I/O (io), 115 I/O (io), 116 I/O (io)
part N pins: 144 I/O (io), 145 I/O (io), 146 I/O (io), 147 I/O (io), 148 I/O (io), 149 I/O (io), 150 I/O (io), 151 I/O (io), 152 I/O (io), 154 I/O (io), 155 I/O (io)
part O pins: 117 I/O (io), 118 I/O (io), 119 I/O (io), 120 I/O (io), 121 I/O (io), 122 I/O (io), 123 I/O (io), 125 I/O (io), 126 I/O (io), 127 I/O (io), 128 I/O (io)
part P pins: 131 I/O (io), 133 I/O (io), 134 I/O (io), 135 I/O (io), 136 I/O (io), 137 I/O (io), 138 I/O (io), 139 I/O (io), 140 I/O (io), 142 I/O (io), 143 I/O (io)
part Q pins: 94 TDI (in), 96 TMS (in), 98 TCK (in), 176 TDO (out)
part R pins: 1 VCCIO 3.3 V/5 V (power), 11 VCCINT 5 V (power), 26 VCCIO 3.3 V/5 V (power), 53 VCCIO 3.3 V/5 V (power), 59 VCCINT 5 V (power), 65 VCCIO 3.3 V/5 V (power), 79 VCCIO 3.3 V/5 V (power), 92 VCCIO 3.3 V/5 V (power), 105 VCCIO 3.3 V/5 V (power), 124 VCCINT 5 V (power), 132 VCCIO 3.3 V/5 V (power), 153 VCCINT 5 V (power), 157 VCCIO 3.3 V/5 V (power), 172 VCCIO 3.3 V/5 V (power), 181 VCCIO 3.3 V/5 V (power), 184 VCCIO 3.3 V/5 V (power), 204 VCCINT 5 V (power)
part S pins: 2 GND (power), 13 GND (power), 24 GND (power), 27 GND (power), 42 GND (power), 52 GND (power), 68 GND (power), 81 GND (power), 93 GND (power), 104 GND (power), 108 GND (power), 129 GND (power), 130 GND (power), 141 GND (power), 156 GND (power), 163 GND (power), 177 GND (power), 190 GND (power), 207 GND (power)
part A text: BANK 1
part B text: BANK 2
part C text: BANK 3
part D text: BANK 4
part E text: BANK 5
part F text: BANK 6
part G text: BANK 7
part H text: BANK 8
part I text: BANK 9
part J text: BANK 10
part K text: BANK 11
part L text: BANK 12
part M text: BANK 13
part N text: BANK 14
part O text: BANK 15
part P text: BANK 16

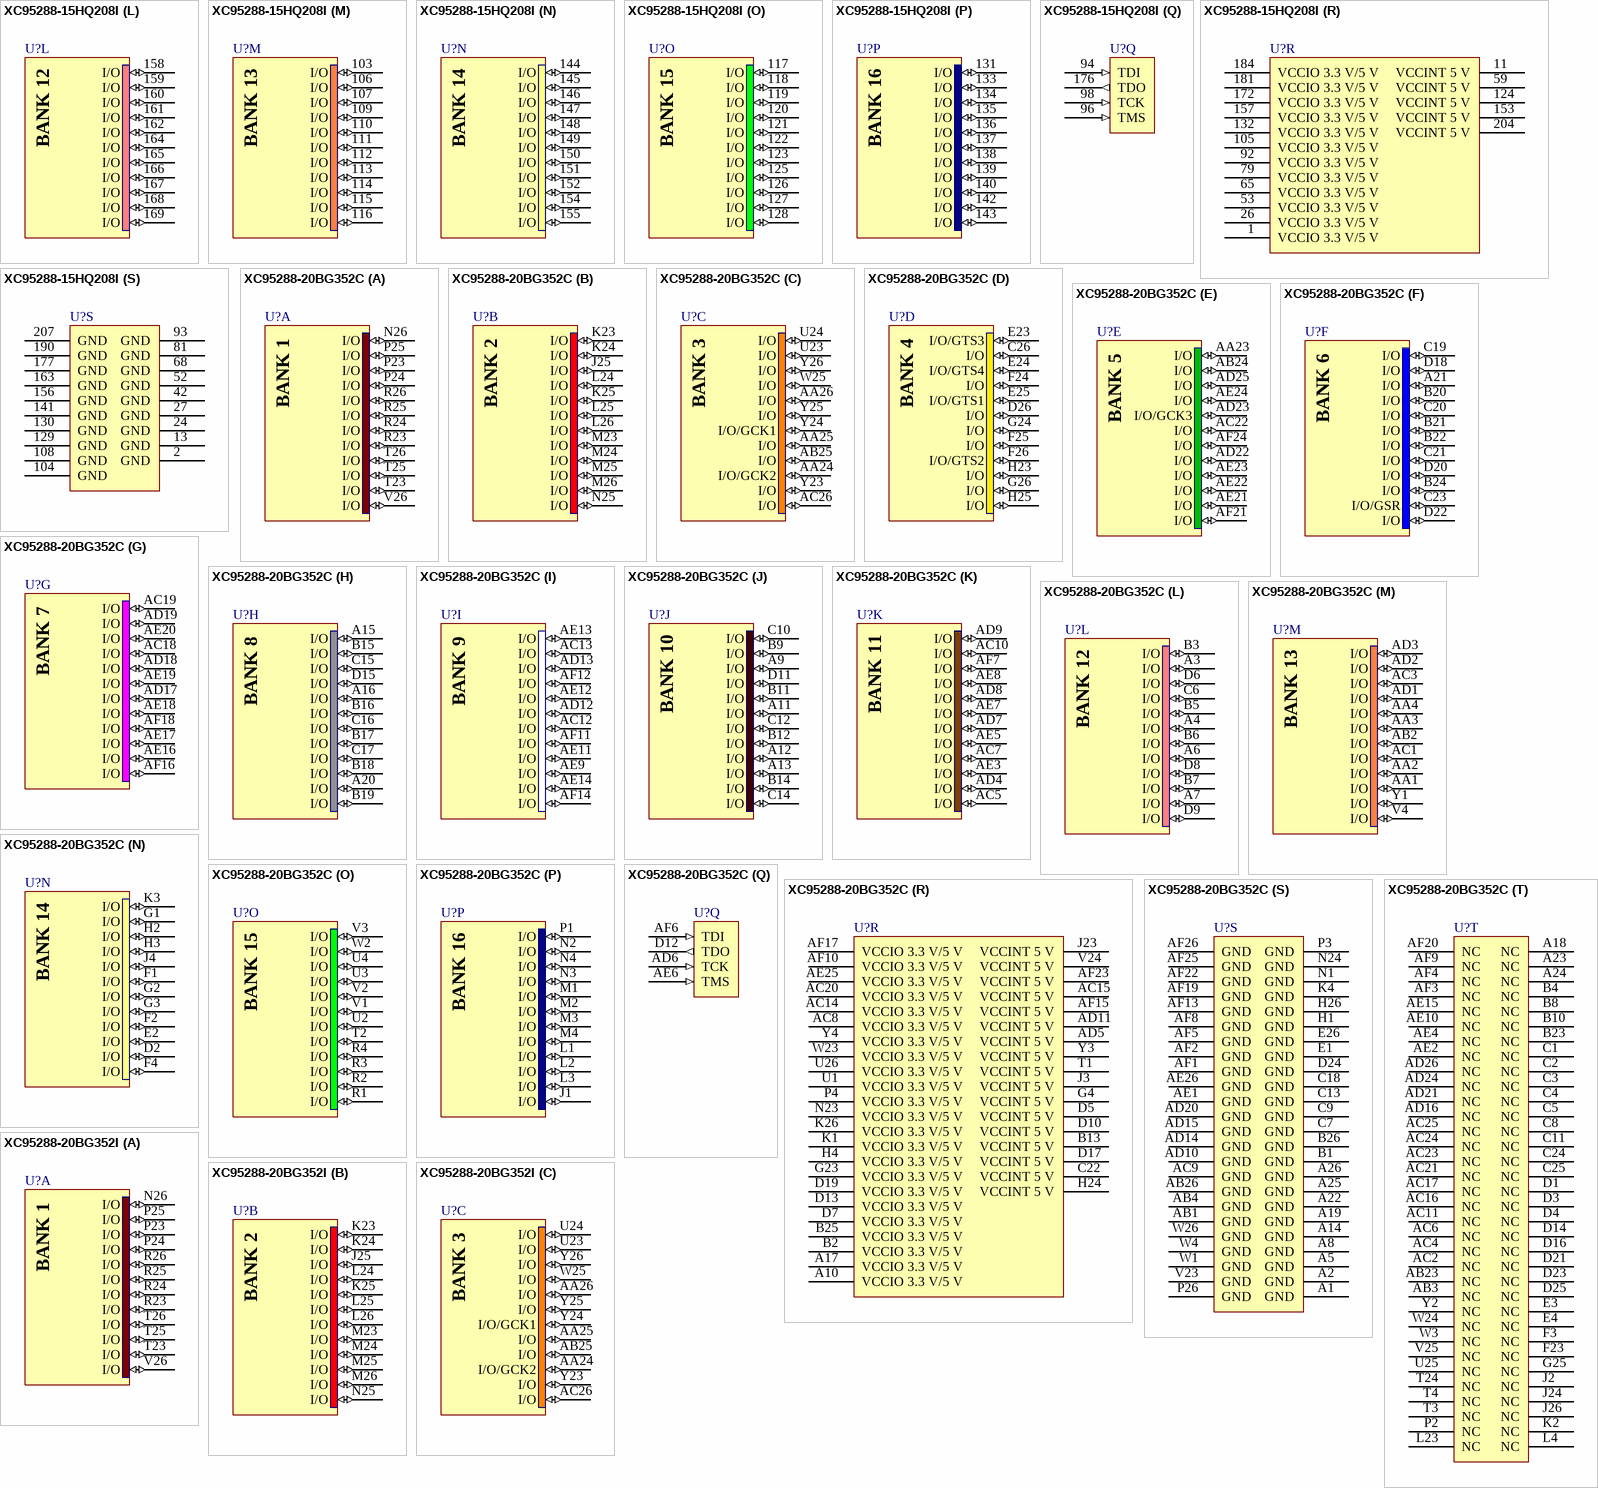
[diagram p71: symbols XC95288-15HQ208I to XC95288-20BG352I]

## XC95288-15HQ208I
designator U?
XC9500 5V, 288 Macrocell CPLD, 168 User I/Os, 208-Pin HQFP, Industrial Grade; Published: 17-Sep-2003; LatestRevisionDate: 18-Nov-2009; LatestRevisionNote: Updated to family datasheet version 5.5 Jun-2007.; DatasheetVersion: ver4.3, Apr-2006; PackageVersion: ver1.2, Jun-2004; PackageReference: HQ208; Publisher: Altium Limited; PackageDescription: 208-Pin Heat Sink Quad Flat Pack (HQ208); Supplier 1: Digi-Key; Supplier Part Number 1: XC95288-15HQ208I-ND; Code_JEDEC: MS-029-FA-1; ComponentLink1Description: XC95288 Datasheet; ComponentLink1URL: http://www.xilinx.com/support/documentation/data_sheets/ds069.pdf; ComponentLink2Description: Discontinuation Notice; ComponentLink2URL: http://www.xilinx.com/support/documentation/customer_notices/xcn09001.pdf; ComponentLink3Description: HQ208 Package Drawing; ComponentLink3URL: http://www.xilinx.com/support/documentation/package_specs/hq208.pdf; ComponentLink4Description: XC9500 Documents; ComponentLink4URL: http://www.xilinx.com/support/documentation/xc9500.htm; ComponentLink5Description: Xilinx.com Home; ComponentLink5URL: http://www.xilinx.com
footprint HQ208_N (Shrink QFP, 208-Leads, Body 28x28mm, Pitch 0.5mm, IPC Medium Density)
footprint HQ208_L (Shrink QFP, 208-Leads, Body 28x28mm, Pitch 0.5mm, IPC High Density)
footprint HQ208_M (Shrink QFP, 208-Leads, Body 28x28mm, Pitch 0.5mm, IPC Low Density)
signal-integrity model XC95288_HQ208 (XC9500)
part A pins: 28 I/O (io), 29 I/O (io), 30 I/O (io), 31 I/O (io), 32 I/O (io), 33 I/O (io), 34 I/O (io), 35 I/O (io), 36 I/O (io), 37 I/O (io)
part B pins: 15 I/O (io), 16 I/O (io), 17 I/O (io), 18 I/O (io), 19 I/O (io), 20 I/O (io), 21 I/O (io), 22 I/O (io), 23 I/O (io), 25 I/O (io)
part C pins: 38 I/O (io), 39 I/O (io), 40 I/O (io), 41 I/O (io), 43 I/O (io), 44 I/O/GCK1 (io), 45 I/O (io), 46 I/O/GCK2 (io), 47 I/O (io), 48 I/O (io)
part D pins: 3 I/O/GTS3 (io), 4 I/O (io), 5 I/O/GTS4 (io), 6 I/O (io), 7 I/O/GTS1 (io), 8 I/O (io), 9 I/O/GTS2 (io), 10 I/O (io), 12 I/O (io), 14 I/O (io)
part E pins: 49 I/O (io), 50 I/O (io), 51 I/O (io), 54 I/O (io), 55 I/O/GCK3 (io), 56 I/O (io), 57 I/O (io), 58 I/O (io), 60 I/O (io), 61 I/O (io)
part F pins: 197 I/O (io), 198 I/O (io), 199 I/O (io), 200 I/O (io), 201 I/O (io), 202 I/O (io), 203 I/O (io), 205 I/O (io), 206 I/O/GSR (io), 208 I/O (io)
part G pins: 62 I/O (io), 63 I/O (io), 64 I/O (io), 66 I/O (io), 67 I/O (io), 69 I/O (io), 70 I/O (io), 71 I/O (io), 72 I/O (io), 73 I/O (io)
part H pins: 186 I/O (io), 187 I/O (io), 188 I/O (io), 189 I/O (io), 191 I/O (io), 192 I/O (io), 193 I/O (io), 194 I/O (io), 195 I/O (io), 196 I/O (io)
part I pins: 74 I/O (io), 75 I/O (io), 76 I/O (io), 77 I/O (io), 78 I/O (io), 80 I/O (io), 82 I/O (io), 83 I/O (io), 84 I/O (io), 85 I/O (io), 86 I/O (io)
part J pins: 170 I/O (io), 171 I/O (io), 173 I/O (io), 174 I/O (io), 175 I/O (io), 178 I/O (io), 179 I/O (io), 180 I/O (io), 182 I/O (io), 183 I/O (io), 185 I/O (io)
part K pins: 87 I/O (io), 88 I/O (io), 89 I/O (io), 90 I/O (io), 91 I/O (io), 95 I/O (io), 97 I/O (io), 99 I/O (io), 100 I/O (io), 101 I/O (io), 102 I/O (io)
part L pins: 158 I/O (io), 159 I/O (io), 160 I/O (io), 161 I/O (io), 162 I/O (io), 164 I/O (io), 165 I/O (io), 166 I/O (io), 167 I/O (io), 168 I/O (io), 169 I/O (io)
part M pins: 103 I/O (io), 106 I/O (io), 107 I/O (io), 109 I/O (io), 110 I/O (io), 111 I/O (io), 112 I/O (io), 113 I/O (io), 114 I/O (io), 115 I/O (io), 116 I/O (io)
part N pins: 144 I/O (io), 145 I/O (io), 146 I/O (io), 147 I/O (io), 148 I/O (io), 149 I/O (io), 150 I/O (io), 151 I/O (io), 152 I/O (io), 154 I/O (io), 155 I/O (io)
part O pins: 117 I/O (io), 118 I/O (io), 119 I/O (io), 120 I/O (io), 121 I/O (io), 122 I/O (io), 123 I/O (io), 125 I/O (io), 126 I/O (io), 127 I/O (io), 128 I/O (io)
part P pins: 131 I/O (io), 133 I/O (io), 134 I/O (io), 135 I/O (io), 136 I/O (io), 137 I/O (io), 138 I/O (io), 139 I/O (io), 140 I/O (io), 142 I/O (io), 143 I/O (io)
part Q pins: 94 TDI (in), 96 TMS (in), 98 TCK (in), 176 TDO (out)
part R pins: 1 VCCIO 3.3 V/5 V (power), 11 VCCINT 5 V (power), 26 VCCIO 3.3 V/5 V (power), 53 VCCIO 3.3 V/5 V (power), 59 VCCINT 5 V (power), 65 VCCIO 3.3 V/5 V (power), 79 VCCIO 3.3 V/5 V (power), 92 VCCIO 3.3 V/5 V (power), 105 VCCIO 3.3 V/5 V (power), 124 VCCINT 5 V (power), 132 VCCIO 3.3 V/5 V (power), 153 VCCINT 5 V (power), 157 VCCIO 3.3 V/5 V (power), 172 VCCIO 3.3 V/5 V (power), 181 VCCIO 3.3 V/5 V (power), 184 VCCIO 3.3 V/5 V (power), 204 VCCINT 5 V (power)
part S pins: 2 GND (power), 13 GND (power), 24 GND (power), 27 GND (power), 42 GND (power), 52 GND (power), 68 GND (power), 81 GND (power), 93 GND (power), 104 GND (power), 108 GND (power), 129 GND (power), 130 GND (power), 141 GND (power), 156 GND (power), 163 GND (power), 177 GND (power), 190 GND (power), 207 GND (power)
part A text: BANK 1
part B text: BANK 2
part C text: BANK 3
part D text: BANK 4
part E text: BANK 5
part F text: BANK 6
part G text: BANK 7
part H text: BANK 8
part I text: BANK 9
part J text: BANK 10
part K text: BANK 11
part L text: BANK 12
part M text: BANK 13
part N text: BANK 14
part O text: BANK 15
part P text: BANK 16

## XC95288-20BG352C
designator U?
XC9500 5V, 288 Macrocell CPLD, 192 User I/Os, 352-Ball BGA, Commercial Grade; Published: 17-Sep-2003; LatestRevisionDate: 18-Nov-2009; LatestRevisionNote: Updated to family datasheet version 5.5 Jun-2007.; DatasheetVersion: ver4.3, Apr-2006; PackageVersion: ver1.1, Apr-2001; PackageReference: BG352; Publisher: Altium Limited; PackageDescription: 352-Ball Metal Ball Grid Array (BG352); Supplier 1: Digi-Key; Supplier Part Number 1: XC95288-20BG352C-ND; Code_JEDEC: MO-192-BAR-2; ComponentLink1Description: XC95288 Datasheet; ComponentLink1URL: http://www.xilinx.com/support/documentation/data_sheets/ds069.pdf; ComponentLink2Description: BG352 Package Drawing; ComponentLink2URL: http://www.xilinx.com/support/documentation/package_specs/bg352.pdf; ComponentLink3Description: XC9500 Documents; ComponentLink3URL: http://www.xilinx.com/support/documentation/xc9500.htm; ComponentLink4Description: Xilinx.com Home; ComponentLink4URL: http://www.xilinx.com
footprint BG352 (BGA, 352-Leads, Body 35x35mm, Pitch 1.27mm)
signal-integrity model XC95288_BGA352 (XC9500)
part A pins: N26 I/O (io), P23 I/O (io), P24 I/O (io), P25 I/O (io), R23 I/O (io), R24 I/O (io), R25 I/O (io), R26 I/O (io), T23 I/O (io), T25 I/O (io), T26 I/O (io), V26 I/O (io)
part B pins: J25 I/O (io), K23 I/O (io), K24 I/O (io), K25 I/O (io), L24 I/O (io), L25 I/O (io), L26 I/O (io), M23 I/O (io), M24 I/O (io), M25 I/O (io), M26 I/O (io), N25 I/O (io)
part C pins: AA24 I/O/GCK2 (io), AA25 I/O (io), AA26 I/O (io), AB25 I/O (io), AC26 I/O (io), U23 I/O (io), U24 I/O (io), W25 I/O (io), Y23 I/O (io), Y24 I/O/GCK1 (io), Y25 I/O (io), Y26 I/O (io)
part D pins: C26 I/O (io), D26 I/O (io), E23 I/O/GTS3 (io), E24 I/O/GTS4 (io), E25 I/O/GTS1 (io), F24 I/O (io), F25 I/O (io), F26 I/O/GTS2 (io), G24 I/O (io), G26 I/O (io), H23 I/O (io), H25 I/O (io)
part E pins: AA23 I/O (io), AB24 I/O (io), AC22 I/O (io), AD22 I/O (io), AD23 I/O/GCK3 (io), AD25 I/O (io), AE21 I/O (io), AE22 I/O (io), AE23 I/O (io), AE24 I/O (io), AF21 I/O (io), AF24 I/O (io)
part F pins: A21 I/O (io), B20 I/O (io), B21 I/O (io), B22 I/O (io), B24 I/O (io), C19 I/O (io), C20 I/O (io), C21 I/O (io), C23 I/O/GSR (io), D18 I/O (io), D20 I/O (io), D22 I/O (io)
part G pins: AC18 I/O (io), AC19 I/O (io), AD17 I/O (io), AD18 I/O (io), AD19 I/O (io), AE16 I/O (io), AE17 I/O (io), AE18 I/O (io), AE19 I/O (io), AE20 I/O (io), AF16 I/O (io), AF18 I/O (io)
part H pins: A15 I/O (io), A16 I/O (io), A20 I/O (io), B15 I/O (io), B16 I/O (io), B17 I/O (io), B18 I/O (io), B19 I/O (io), C15 I/O (io), C16 I/O (io), C17 I/O (io), D15 I/O (io)
part I pins: AC12 I/O (io), AC13 I/O (io), AD12 I/O (io), AD13 I/O (io), AE9 I/O (io), AE11 I/O (io), AE12 I/O (io), AE13 I/O (io), AE14 I/O (io), AF11 I/O (io), AF12 I/O (io), AF14 I/O (io)
part J pins: A9 I/O (io), A11 I/O (io), A12 I/O (io), A13 I/O (io), B9 I/O (io), B11 I/O (io), B12 I/O (io), B14 I/O (io), C10 I/O (io), C12 I/O (io), C14 I/O (io), D11 I/O (io)
part K pins: AC5 I/O (io), AC7 I/O (io), AC10 I/O (io), AD4 I/O (io), AD7 I/O (io), AD8 I/O (io), AD9 I/O (io), AE3 I/O (io), AE5 I/O (io), AE7 I/O (io), AE8 I/O (io), AF7 I/O (io)
part L pins: A3 I/O (io), A4 I/O (io), A6 I/O (io), A7 I/O (io), B3 I/O (io), B5 I/O (io), B6 I/O (io), B7 I/O (io), C6 I/O (io), D6 I/O (io), D8 I/O (io), D9 I/O (io)
part M pins: AA1 I/O (io), AA2 I/O (io), AA3 I/O (io), AA4 I/O (io), AB2 I/O (io), AC1 I/O (io), AC3 I/O (io), AD1 I/O (io), AD2 I/O (io), AD3 I/O (io), V4 I/O (io), Y1 I/O (io)
part N pins: D2 I/O (io), E2 I/O (io), F1 I/O (io), F2 I/O (io), F4 I/O (io), G1 I/O (io), G2 I/O (io), G3 I/O (io), H2 I/O (io), H3 I/O (io), J4 I/O (io), K3 I/O (io)
part O pins: R1 I/O (io), R2 I/O (io), R3 I/O (io), R4 I/O (io), T2 I/O (io), U2 I/O (io), U3 I/O (io), U4 I/O (io), V1 I/O (io), V2 I/O (io), V3 I/O (io), W2 I/O (io)
part P pins: J1 I/O (io), L1 I/O (io), L2 I/O (io), L3 I/O (io), M1 I/O (io), M2 I/O (io), M3 I/O (io), M4 I/O (io), N2 I/O (io), N3 I/O (io), N4 I/O (io), P1 I/O (io)
part Q pins: AD6 TCK (in), AE6 TMS (in), AF6 TDI (in), D12 TDO (out)
part R pins: A10 VCCIO 3.3 V/5 V (power), A17 VCCIO 3.3 V/5 V (power), AC8 VCCIO 3.3 V/5 V (power), AC14 VCCIO 3.3 V/5 V (power), AC15 VCCINT 5 V (power), AC20 VCCIO 3.3 V/5 V (power), AD5 VCCINT 5 V (power), AD11 VCCINT 5 V (power), AE25 VCCIO 3.3 V/5 V (power), AF10 VCCIO 3.3 V/5 V (power), AF15 VCCINT 5 V (power), AF17 VCCIO 3.3 V/5 V (power), AF23 VCCINT 5 V (power), B2 VCCIO 3.3 V/5 V (power), B13 VCCINT 5 V (power), B25 VCCIO 3.3 V/5 V (power), C22 VCCINT 5 V (power), D5 VCCINT 5 V (power), D7 VCCIO 3.3 V/5 V (power), D10 VCCINT 5 V (power), D13 VCCIO 3.3 V/5 V (power), D17 VCCINT 5 V (power), D19 VCCIO 3.3 V/5 V (power), G4 VCCINT 5 V (power), G23 VCCIO 3.3 V/5 V (power), H4 VCCIO 3.3 V/5 V (power), H24 VCCINT 5 V (power), J3 VCCINT 5 V (power), J23 VCCINT 5 V (power), K1 VCCIO 3.3 V/5 V (power), K26 VCCIO 3.3 V/5 V (power), N23 VCCIO 3.3 V/5 V (power), P4 VCCIO 3.3 V/5 V (power), T1 VCCINT 5 V (power), U1 VCCIO 3.3 V/5 V (power), U26 VCCIO 3.3 V/5 V (power), V24 VCCINT 5 V (power), W23 VCCIO 3.3 V/5 V (power), Y3 VCCINT 5 V (power), Y4 VCCIO 3.3 V/5 V (power)
part S pins: A1 GND (power), A2 GND (power), A5 GND (power), A8 GND (power), A14 GND (power), A19 GND (power), A22 GND (power), A25 GND (power), A26 GND (power), AB1 GND (power), AB4 GND (power), AB26 GND (power), AC9 GND (power), AD10 GND (power), AD14 GND (power), AD15 GND (power), AD20 GND (power), AE1 GND (power), AE26 GND (power), AF1 GND (power), AF2 GND (power), AF5 GND (power), AF8 GND (power), AF13 GND (power), AF19 GND (power), AF22 GND (power), AF25 GND (power), AF26 GND (power), B1 GND (power), B26 GND (power), C7 GND (power), C9 GND (power), C13 GND (power), C18 GND (power), D24 GND (power), E1 GND (power), E26 GND (power), H1 GND (power), H26 GND (power), K4 GND (power), N1 GND (power), N24 GND (power), P3 GND (power), P26 GND (power), V23 GND (power), W1 GND (power), W4 GND (power), W26 GND (power)
part T pins: A18 NC, A23 NC, A24 NC, AB3 NC, AB23 NC, AC2 NC, AC4 NC, AC6 NC, AC11 NC, AC16 NC, AC17 NC, AC21 NC, AC23 NC, AC24 NC, AC25 NC, AD16 NC, AD21 NC, AD24 NC, AD26 NC, AE2 NC, AE4 NC, AE10 NC, AE15 NC, AF3 NC, AF4 NC, AF9 NC, AF20 NC, B4 NC, B8 NC, B10 NC, B23 NC, C1 NC, C2 NC, C3 NC, C4 NC, C5 NC, C8 NC, C11 NC, C24 NC, C25 NC, D1 NC, D3 NC, D4 NC, D14 NC, D16 NC, D21 NC, D23 NC, D25 NC, E3 NC, E4 NC, F3 NC, F23 NC, G25 NC, J2 NC, J24 NC, J26 NC, K2 NC, L4 NC, L23 NC, P2 NC, T3 NC, T4 NC, T24 NC, U25 NC, V25 NC, W3 NC, W24 NC, Y2 NC
part A text: BANK 1
part B text: BANK 2
part C text: BANK 3
part D text: BANK 4
part E text: BANK 5
part F text: BANK 6
part G text: BANK 7
part H text: BANK 8
part I text: BANK 9
part J text: BANK 10
part K text: BANK 11
part L text: BANK 12
part M text: BANK 13
part N text: BANK 14
part O text: BANK 15
part P text: BANK 16

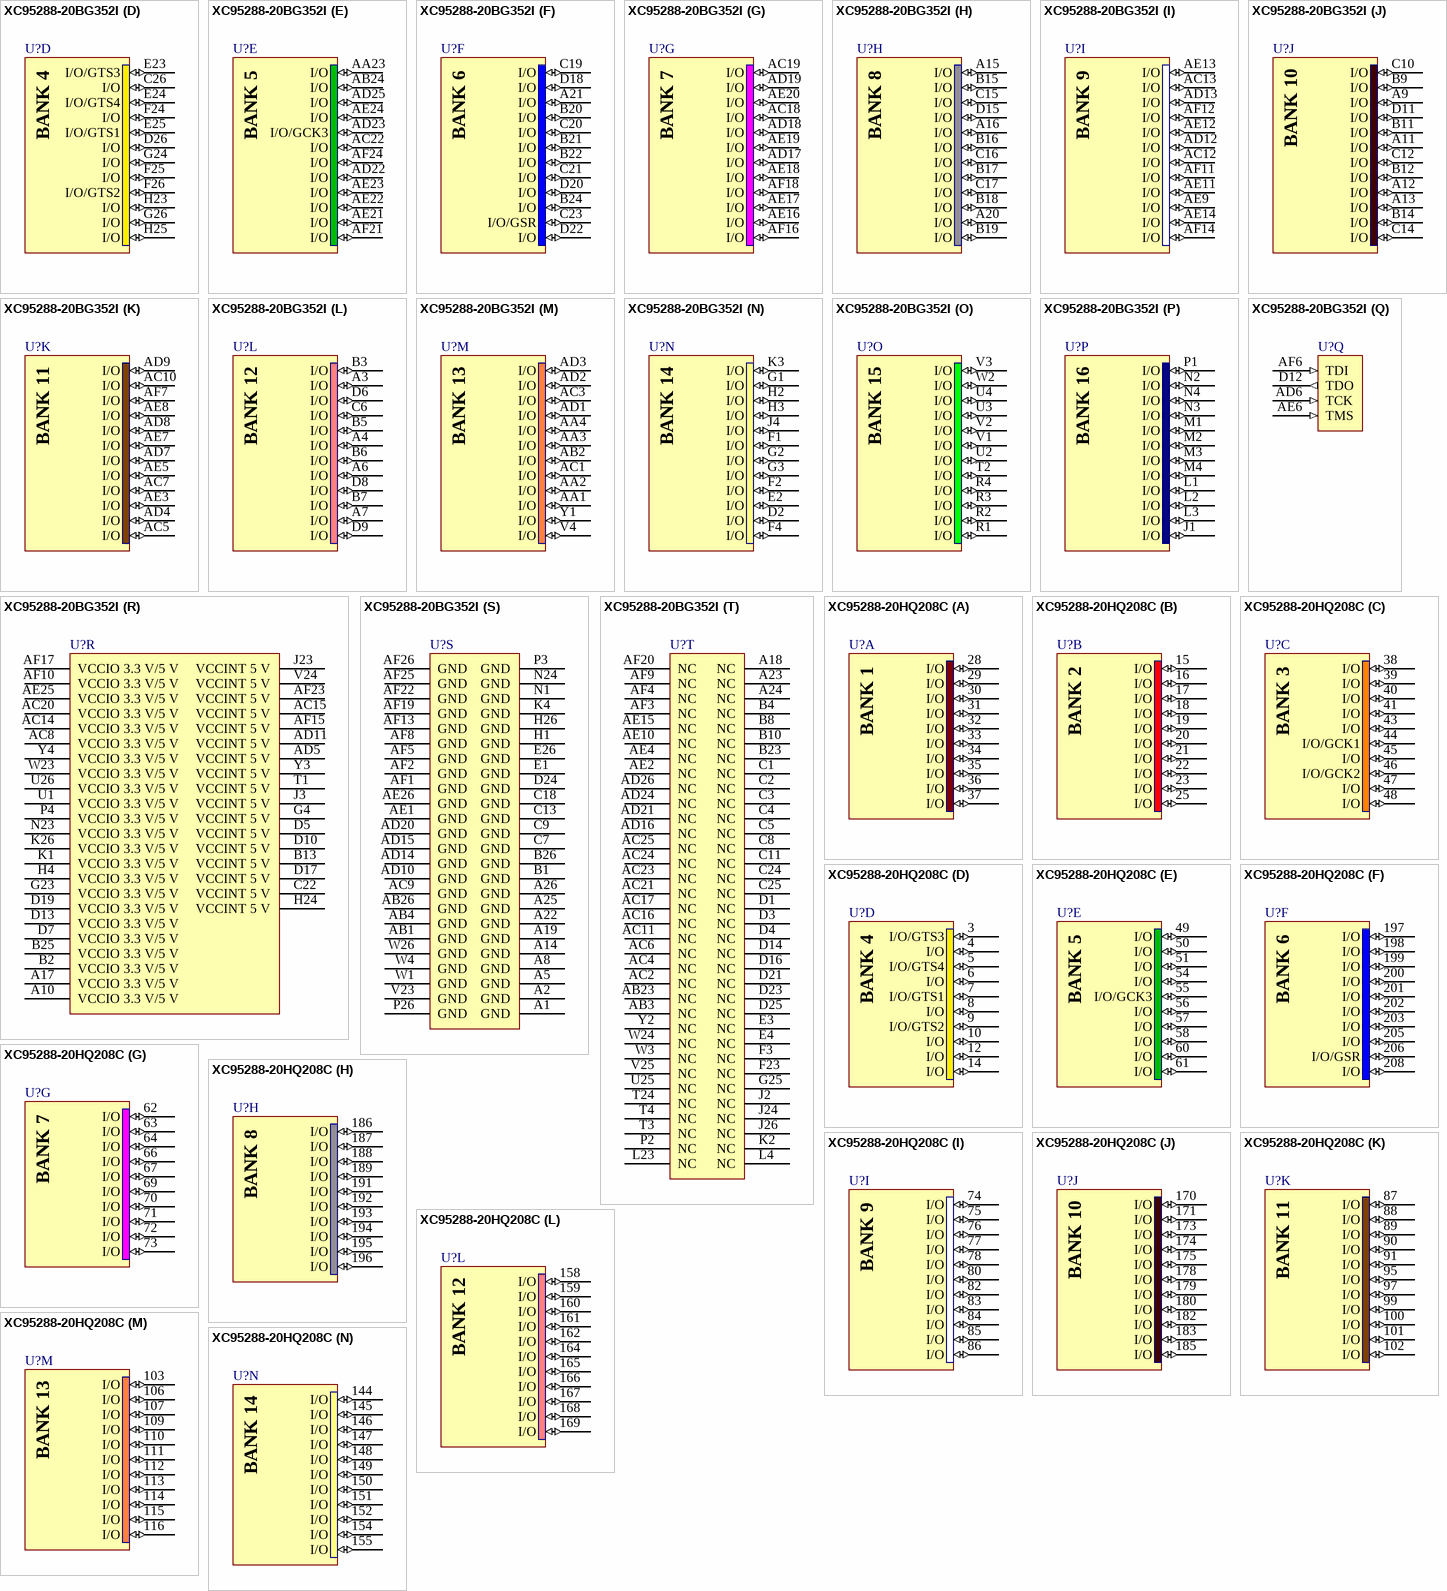
[diagram p72: symbols XC95288-20BG352I to XC95288-20HQ208C]

## XC95288-20BG352I
designator U?
XC9500 5V, 288 Macrocell CPLD, 192 User I/Os, 352-Ball BGA, Industrial Grade; Published: 17-Sep-2003; LatestRevisionDate: 18-Nov-2009; LatestRevisionNote: Updated to family datasheet version 5.5 Jun-2007.; DatasheetVersion: ver4.3, Apr-2006; PackageVersion: ver1.1, Apr-2001; PackageReference: BG352; Publisher: Altium Limited; PackageDescription: 352-Ball Metal Ball Grid Array (BG352); Supplier 1: Digi-Key; Supplier Part Number 1: XC95288-20BG352I-ND; Code_JEDEC: MO-192-BAR-2; ComponentLink1Description: XC95288 Datasheet; ComponentLink1URL: http://www.xilinx.com/support/documentation/data_sheets/ds069.pdf; ComponentLink2Description: BG352 Package Drawing; ComponentLink2URL: http://www.xilinx.com/support/documentation/package_specs/bg352.pdf; ComponentLink3Description: XC9500 Documents; ComponentLink3URL: http://www.xilinx.com/support/documentation/xc9500.htm; ComponentLink4Description: Xilinx.com Home; ComponentLink4URL: http://www.xilinx.com
footprint BG352 (BGA, 352-Leads, Body 35x35mm, Pitch 1.27mm)
signal-integrity model XC95288_BGA352 (XC9500)
part A pins: N26 I/O (io), P23 I/O (io), P24 I/O (io), P25 I/O (io), R23 I/O (io), R24 I/O (io), R25 I/O (io), R26 I/O (io), T23 I/O (io), T25 I/O (io), T26 I/O (io), V26 I/O (io)
part B pins: J25 I/O (io), K23 I/O (io), K24 I/O (io), K25 I/O (io), L24 I/O (io), L25 I/O (io), L26 I/O (io), M23 I/O (io), M24 I/O (io), M25 I/O (io), M26 I/O (io), N25 I/O (io)
part C pins: AA24 I/O/GCK2 (io), AA25 I/O (io), AA26 I/O (io), AB25 I/O (io), AC26 I/O (io), U23 I/O (io), U24 I/O (io), W25 I/O (io), Y23 I/O (io), Y24 I/O/GCK1 (io), Y25 I/O (io), Y26 I/O (io)
part D pins: C26 I/O (io), D26 I/O (io), E23 I/O/GTS3 (io), E24 I/O/GTS4 (io), E25 I/O/GTS1 (io), F24 I/O (io), F25 I/O (io), F26 I/O/GTS2 (io), G24 I/O (io), G26 I/O (io), H23 I/O (io), H25 I/O (io)
part E pins: AA23 I/O (io), AB24 I/O (io), AC22 I/O (io), AD22 I/O (io), AD23 I/O/GCK3 (io), AD25 I/O (io), AE21 I/O (io), AE22 I/O (io), AE23 I/O (io), AE24 I/O (io), AF21 I/O (io), AF24 I/O (io)
part F pins: A21 I/O (io), B20 I/O (io), B21 I/O (io), B22 I/O (io), B24 I/O (io), C19 I/O (io), C20 I/O (io), C21 I/O (io), C23 I/O/GSR (io), D18 I/O (io), D20 I/O (io), D22 I/O (io)
part G pins: AC18 I/O (io), AC19 I/O (io), AD17 I/O (io), AD18 I/O (io), AD19 I/O (io), AE16 I/O (io), AE17 I/O (io), AE18 I/O (io), AE19 I/O (io), AE20 I/O (io), AF16 I/O (io), AF18 I/O (io)
part H pins: A15 I/O (io), A16 I/O (io), A20 I/O (io), B15 I/O (io), B16 I/O (io), B17 I/O (io), B18 I/O (io), B19 I/O (io), C15 I/O (io), C16 I/O (io), C17 I/O (io), D15 I/O (io)
part I pins: AC12 I/O (io), AC13 I/O (io), AD12 I/O (io), AD13 I/O (io), AE9 I/O (io), AE11 I/O (io), AE12 I/O (io), AE13 I/O (io), AE14 I/O (io), AF11 I/O (io), AF12 I/O (io), AF14 I/O (io)
part J pins: A9 I/O (io), A11 I/O (io), A12 I/O (io), A13 I/O (io), B9 I/O (io), B11 I/O (io), B12 I/O (io), B14 I/O (io), C10 I/O (io), C12 I/O (io), C14 I/O (io), D11 I/O (io)
part K pins: AC5 I/O (io), AC7 I/O (io), AC10 I/O (io), AD4 I/O (io), AD7 I/O (io), AD8 I/O (io), AD9 I/O (io), AE3 I/O (io), AE5 I/O (io), AE7 I/O (io), AE8 I/O (io), AF7 I/O (io)
part L pins: A3 I/O (io), A4 I/O (io), A6 I/O (io), A7 I/O (io), B3 I/O (io), B5 I/O (io), B6 I/O (io), B7 I/O (io), C6 I/O (io), D6 I/O (io), D8 I/O (io), D9 I/O (io)
part M pins: AA1 I/O (io), AA2 I/O (io), AA3 I/O (io), AA4 I/O (io), AB2 I/O (io), AC1 I/O (io), AC3 I/O (io), AD1 I/O (io), AD2 I/O (io), AD3 I/O (io), V4 I/O (io), Y1 I/O (io)
part N pins: D2 I/O (io), E2 I/O (io), F1 I/O (io), F2 I/O (io), F4 I/O (io), G1 I/O (io), G2 I/O (io), G3 I/O (io), H2 I/O (io), H3 I/O (io), J4 I/O (io), K3 I/O (io)
part O pins: R1 I/O (io), R2 I/O (io), R3 I/O (io), R4 I/O (io), T2 I/O (io), U2 I/O (io), U3 I/O (io), U4 I/O (io), V1 I/O (io), V2 I/O (io), V3 I/O (io), W2 I/O (io)
part P pins: J1 I/O (io), L1 I/O (io), L2 I/O (io), L3 I/O (io), M1 I/O (io), M2 I/O (io), M3 I/O (io), M4 I/O (io), N2 I/O (io), N3 I/O (io), N4 I/O (io), P1 I/O (io)
part Q pins: AD6 TCK (in), AE6 TMS (in), AF6 TDI (in), D12 TDO (out)
part R pins: A10 VCCIO 3.3 V/5 V (power), A17 VCCIO 3.3 V/5 V (power), AC8 VCCIO 3.3 V/5 V (power), AC14 VCCIO 3.3 V/5 V (power), AC15 VCCINT 5 V (power), AC20 VCCIO 3.3 V/5 V (power), AD5 VCCINT 5 V (power), AD11 VCCINT 5 V (power), AE25 VCCIO 3.3 V/5 V (power), AF10 VCCIO 3.3 V/5 V (power), AF15 VCCINT 5 V (power), AF17 VCCIO 3.3 V/5 V (power), AF23 VCCINT 5 V (power), B2 VCCIO 3.3 V/5 V (power), B13 VCCINT 5 V (power), B25 VCCIO 3.3 V/5 V (power), C22 VCCINT 5 V (power), D5 VCCINT 5 V (power), D7 VCCIO 3.3 V/5 V (power), D10 VCCINT 5 V (power), D13 VCCIO 3.3 V/5 V (power), D17 VCCINT 5 V (power), D19 VCCIO 3.3 V/5 V (power), G4 VCCINT 5 V (power), G23 VCCIO 3.3 V/5 V (power), H4 VCCIO 3.3 V/5 V (power), H24 VCCINT 5 V (power), J3 VCCINT 5 V (power), J23 VCCINT 5 V (power), K1 VCCIO 3.3 V/5 V (power), K26 VCCIO 3.3 V/5 V (power), N23 VCCIO 3.3 V/5 V (power), P4 VCCIO 3.3 V/5 V (power), T1 VCCINT 5 V (power), U1 VCCIO 3.3 V/5 V (power), U26 VCCIO 3.3 V/5 V (power), V24 VCCINT 5 V (power), W23 VCCIO 3.3 V/5 V (power), Y3 VCCINT 5 V (power), Y4 VCCIO 3.3 V/5 V (power)
part S pins: A1 GND (power), A2 GND (power), A5 GND (power), A8 GND (power), A14 GND (power), A19 GND (power), A22 GND (power), A25 GND (power), A26 GND (power), AB1 GND (power), AB4 GND (power), AB26 GND (power), AC9 GND (power), AD10 GND (power), AD14 GND (power), AD15 GND (power), AD20 GND (power), AE1 GND (power), AE26 GND (power), AF1 GND (power), AF2 GND (power), AF5 GND (power), AF8 GND (power), AF13 GND (power), AF19 GND (power), AF22 GND (power), AF25 GND (power), AF26 GND (power), B1 GND (power), B26 GND (power), C7 GND (power), C9 GND (power), C13 GND (power), C18 GND (power), D24 GND (power), E1 GND (power), E26 GND (power), H1 GND (power), H26 GND (power), K4 GND (power), N1 GND (power), N24 GND (power), P3 GND (power), P26 GND (power), V23 GND (power), W1 GND (power), W4 GND (power), W26 GND (power)
part T pins: A18 NC, A23 NC, A24 NC, AB3 NC, AB23 NC, AC2 NC, AC4 NC, AC6 NC, AC11 NC, AC16 NC, AC17 NC, AC21 NC, AC23 NC, AC24 NC, AC25 NC, AD16 NC, AD21 NC, AD24 NC, AD26 NC, AE2 NC, AE4 NC, AE10 NC, AE15 NC, AF3 NC, AF4 NC, AF9 NC, AF20 NC, B4 NC, B8 NC, B10 NC, B23 NC, C1 NC, C2 NC, C3 NC, C4 NC, C5 NC, C8 NC, C11 NC, C24 NC, C25 NC, D1 NC, D3 NC, D4 NC, D14 NC, D16 NC, D21 NC, D23 NC, D25 NC, E3 NC, E4 NC, F3 NC, F23 NC, G25 NC, J2 NC, J24 NC, J26 NC, K2 NC, L4 NC, L23 NC, P2 NC, T3 NC, T4 NC, T24 NC, U25 NC, V25 NC, W3 NC, W24 NC, Y2 NC
part A text: BANK 1
part B text: BANK 2
part C text: BANK 3
part D text: BANK 4
part E text: BANK 5
part F text: BANK 6
part G text: BANK 7
part H text: BANK 8
part I text: BANK 9
part J text: BANK 10
part K text: BANK 11
part L text: BANK 12
part M text: BANK 13
part N text: BANK 14
part O text: BANK 15
part P text: BANK 16

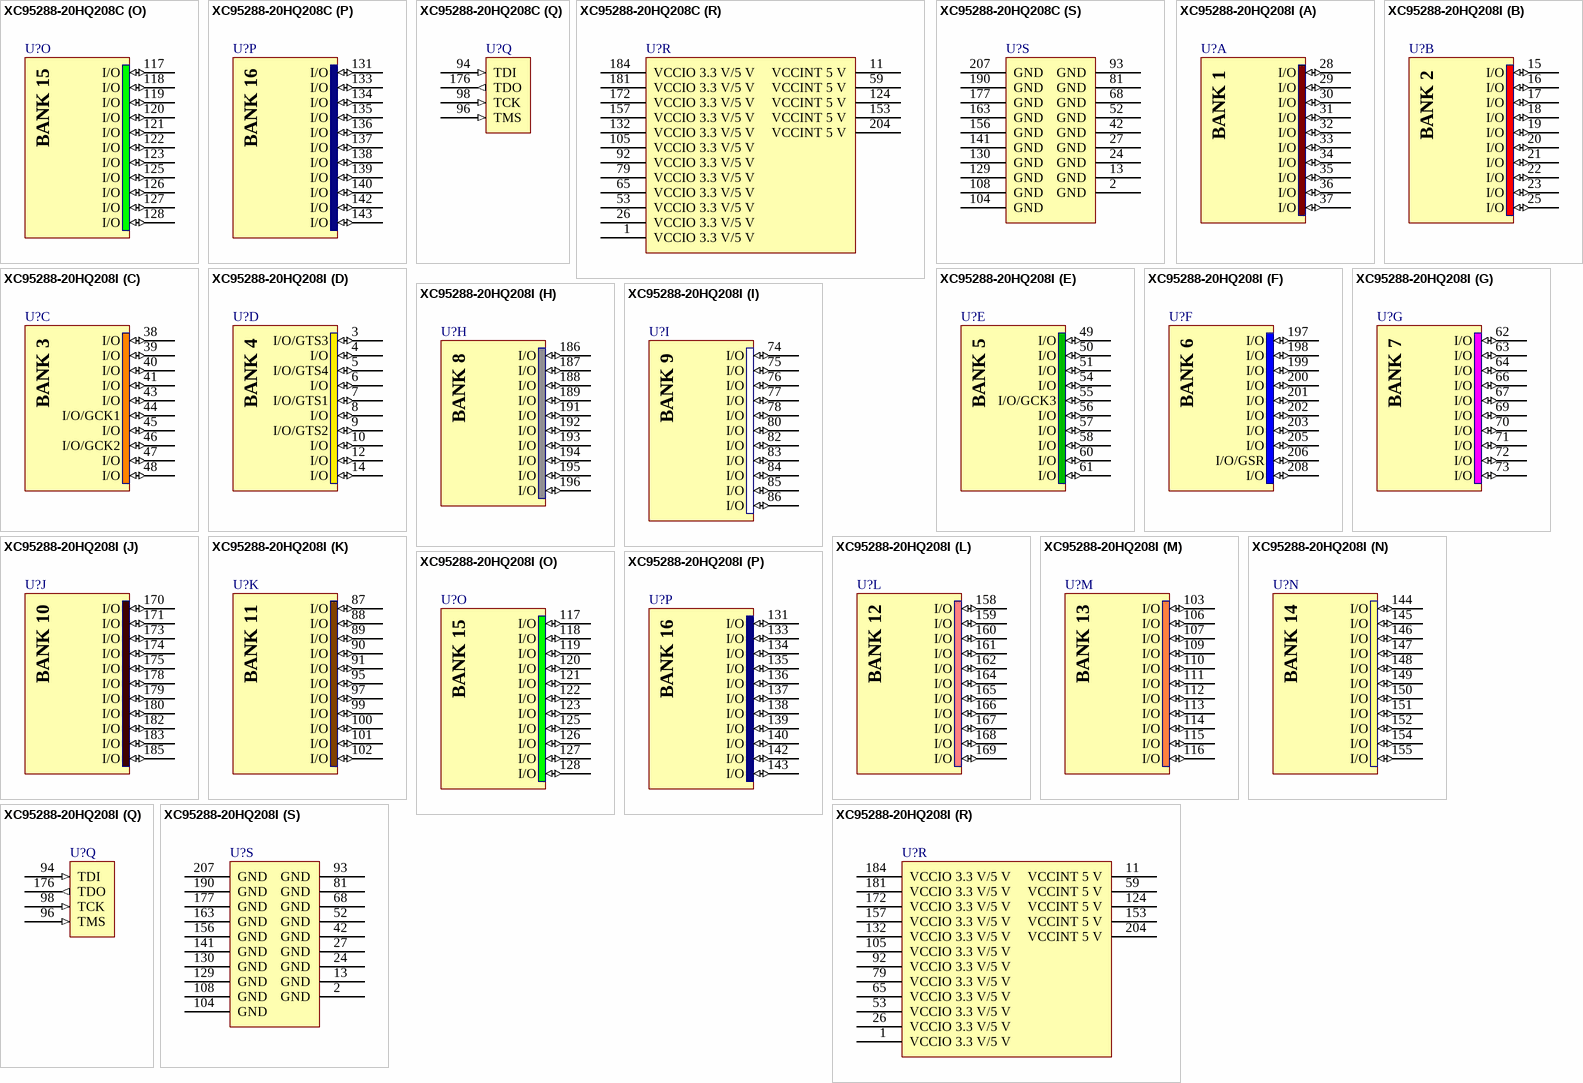
[diagram p73: symbols XC95288-20HQ208C to XC95288-20HQ208I]